# Altium schematic symbol library soed_new.SchLib: 151 symbols
Pins are listed as number, name and electrical type; pins without a type are passive.

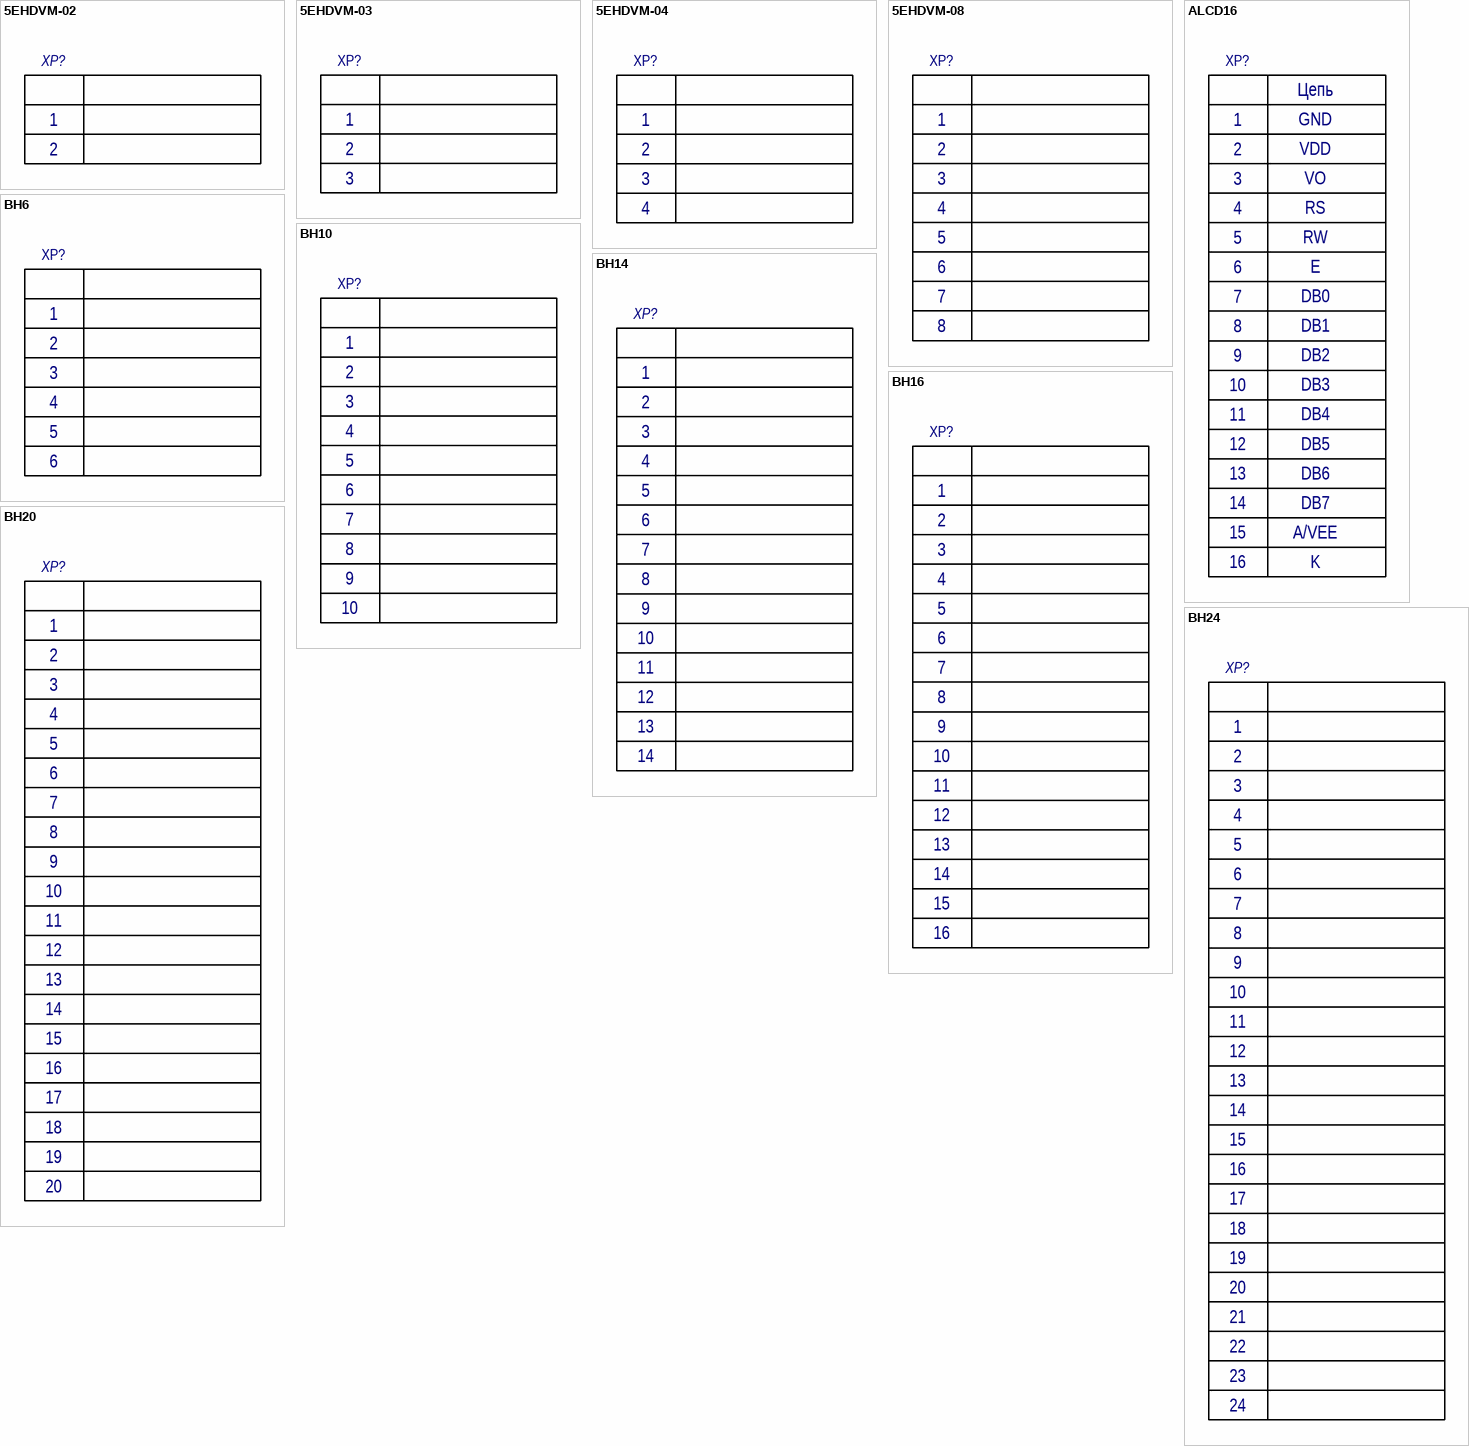
[diagram p0: symbols 5EHDVM-02 to BH24]

## 5EHDVM-02
designator XP?  (value not drawn)
Group: Соединители; Manufacture: Manufacture; Type: Type
footprint 5EHDVM-02
pins: 1, 2

## 5EHDVM-03
designator XP?  (value not drawn)
Group: Соединители; Manufacture: Manufacture; Type: Type
footprint 5EHDVM-03
pins: 1, 2, 3

## 5EHDVM-04
designator XP?  (value not drawn)
Group: Соединители; Manufacture: Manufacture; Type: Type
footprint 5EHDVM-04
pins: 1, 2, 3, 4

## 5EHDVM-08
designator XP?  (value not drawn)
Group: Соединители; Manufacture: Manufacture; Type: Type
footprint 5EHDVM-08
pins: 1, 2, 3, 4, 5, 6, 7, 8

## ALCD16
designator XP?  (value not drawn)
Group: Соединители; Manufacture: Manufacture; Type: Type
footprint BH16
pins: 1, 2, 3, 4, 5, 6, 7, 8, 9, 10, 11, 12, 13, 14, 15, 16
text: Цепь; GND; VDD; VO; RS; RW; E; DB0; DB1; DB2; DB3; DB4; DB5; DB6; DB7; A/VEE; K

## BH6
designator XP?  (value not drawn)
Group: Соединители; Manufacture: Manufacture; Type: Type
footprint BH6
pins: 1, 2, 3, 4, 5, 6

## BH10
designator XP?  (value not drawn)
Group: Соединители; Manufacture: Manufacture; Type: Type
footprint BH10
pins: 1, 2, 3, 4, 5, 6, 7, 8, 9, 10

## BH14
designator XP?  (value not drawn)
Group: Соединители; Manufacture: Manufacture; Type: Type
footprint BH14
pins: 1, 2, 3, 4, 5, 6, 7, 8, 9, 10, 11, 12, 13, 14

## BH16
designator XP?  (value not drawn)
Group: Соединители; Manufacture: Manufacture; Type: Type
footprint BH16
pins: 1, 2, 3, 4, 5, 6, 7, 8, 9, 10, 11, 12, 13, 14, 15, 16

## BH20
designator XP?  (value not drawn)
Group: Соединители; Manufacture: Manufacture; Type: Type
footprint BH20
pins: 1, 2, 3, 4, 5, 6, 7, 8, 9, 10, 11, 12, 13, 14, 15, 16, 17, 18, 19, 20

## BH24
designator XP?  (value not drawn)
Group: Соединители; Manufacture: Manufacture; Type: Type
pins: 1, 2, 3, 4, 5, 6, 7, 8, 9, 10, 11, 12, 13, 14, 15, 16, 17, 18, 19, 20, 21, 22, 23, 24

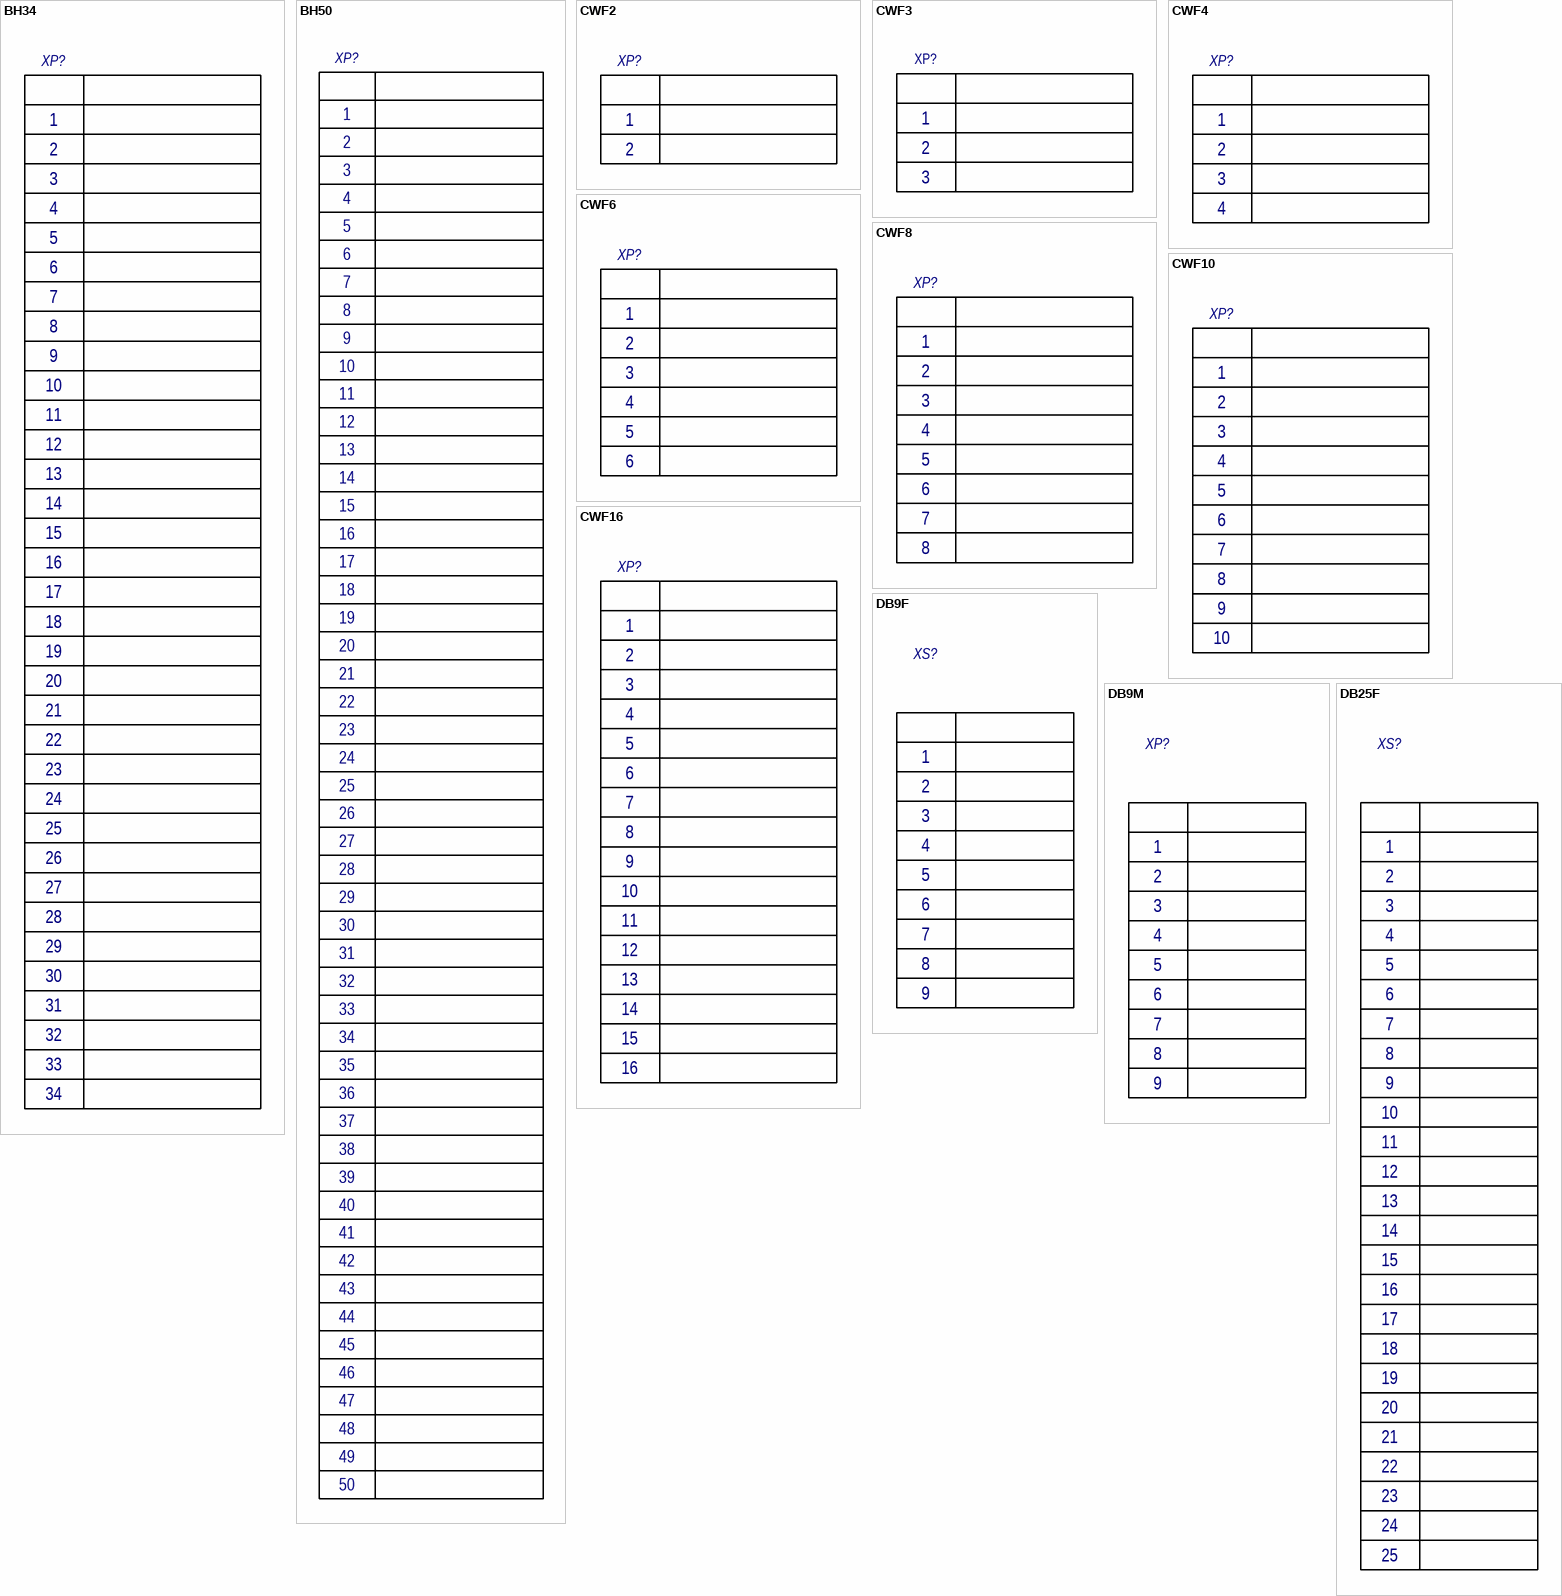
[diagram p1: symbols BH34 to DB25F]

## BH34
designator XP?  (value not drawn)
Group: Соединители; Manufacture: Manufacture; Type: Type
pins: 1, 2, 3, 4, 5, 6, 7, 8, 9, 10, 11, 12, 13, 14, 15, 16, 17, 18, 19, 20, 21, 22, 23, 24, 25, 26, 27, 28, 29, 30, 31, 32, 33, 34

## BH50
designator XP?  (value not drawn)
Group: Соединители; Manufacture: Manufacture; Type: Type
pins: 1 0, 2 0, 3 1, 4 2, 5 3, 6 4, 7 5, 8 6, 9 7, 10 8, 11 9, 12 10, 13 11, 14 12, 15 13, 16 14, 17 15, 18 16, 19 17, 20 18, 21 19, 22 20, 23 21, 24 22, 25 23, 26 24, 27 25, 28 26, 29 27, 30 28, 31 29, 32 30, 33 31, 34 0, 35 1, 36 2, 37 3, 38 4, 39 5, 40 6, 41 7, 42 8, 43 9, 44 10, 45 11, 46 12, 47 13, 48 14, 49 15, 50 16

## CWF2
designator XP?  (value not drawn)
Group: Соединители; Manufacture: Manufacture; Type: Type
footprint CWF2
pins: 1, 2

## CWF3
designator XP?  (value not drawn)
Group: Соединители; Manufacture: Manufacture; Type: Type
footprint CWF3
pins: 1, 2, 3

## CWF4
designator XP?  (value not drawn)
Group: Соединители; Manufacture: Manufacture; Type: Type
footprint CWF4
pins: 1, 2, 3, 4

## CWF6
designator XP?  (value not drawn)
Group: Соединители; Manufacture: Manufacture; Type: Type
footprint CWF6
pins: 1, 2, 3, 4, 5, 6

## CWF8
designator XP?  (value not drawn)
Group: Соединители; Manufacture: Manufacture; Type: Type
footprint CWF8
pins: 1, 2, 3, 4, 5, 6, 7, 8

## CWF10
designator XP?  (value not drawn)
Group: Соединители; Manufacture: Manufacture; Type: Type
footprint CWF10
pins: 1, 2, 3, 4, 5, 6, 7, 8, 9, 10

## CWF16
designator XP?  (value not drawn)
Group: Соединители; Manufacture: Manufacture; Type: Type
footprint CWF16
pins: 1, 2, 3, 4, 5, 6, 7, 8, 9, 10, 11, 12, 13, 14, 15, 16

## DB9F
designator XS?, comment Розетка DB9  (value not drawn)
Part Number: Розетка DB-9F; Group: Соединители; Manufacture: Manufacture
pins: 1, 1, 2, 2, 3, 3, 4, 4, 5, 5, 6, 6, 7, 7, 8, 8, 9, 9

## DB9M
designator XP?, comment Вилка DB9  (value not drawn)
Part Number: Вилка DB-9M; Group: Соединители; Manufacture: Manufacture
pins: 1, 1, 2, 2, 3, 3, 4, 4, 5, 5, 6, 6, 7, 7, 8, 8, 9, 9

## DB25F
designator XS?, comment Розетка DB25  (value not drawn)
Part Number: Розетка DB-25F; Group: Соединители; Manufacture: Manufacture
pins: 1, 1, 2, 2, 3, 3, 4, 4, 5, 5, 6, 6, 7, 7, 8, 8, 9, 9, 10, 10, 11, 11, 12, 12, 13, 13, 14, 14, 15, 15, 16, 16, 17, 17, 18, 18, 19, 19, 20, 20, 21, 21, 22, 22, 23, 23, 24, 24, 24, 24
text: 25

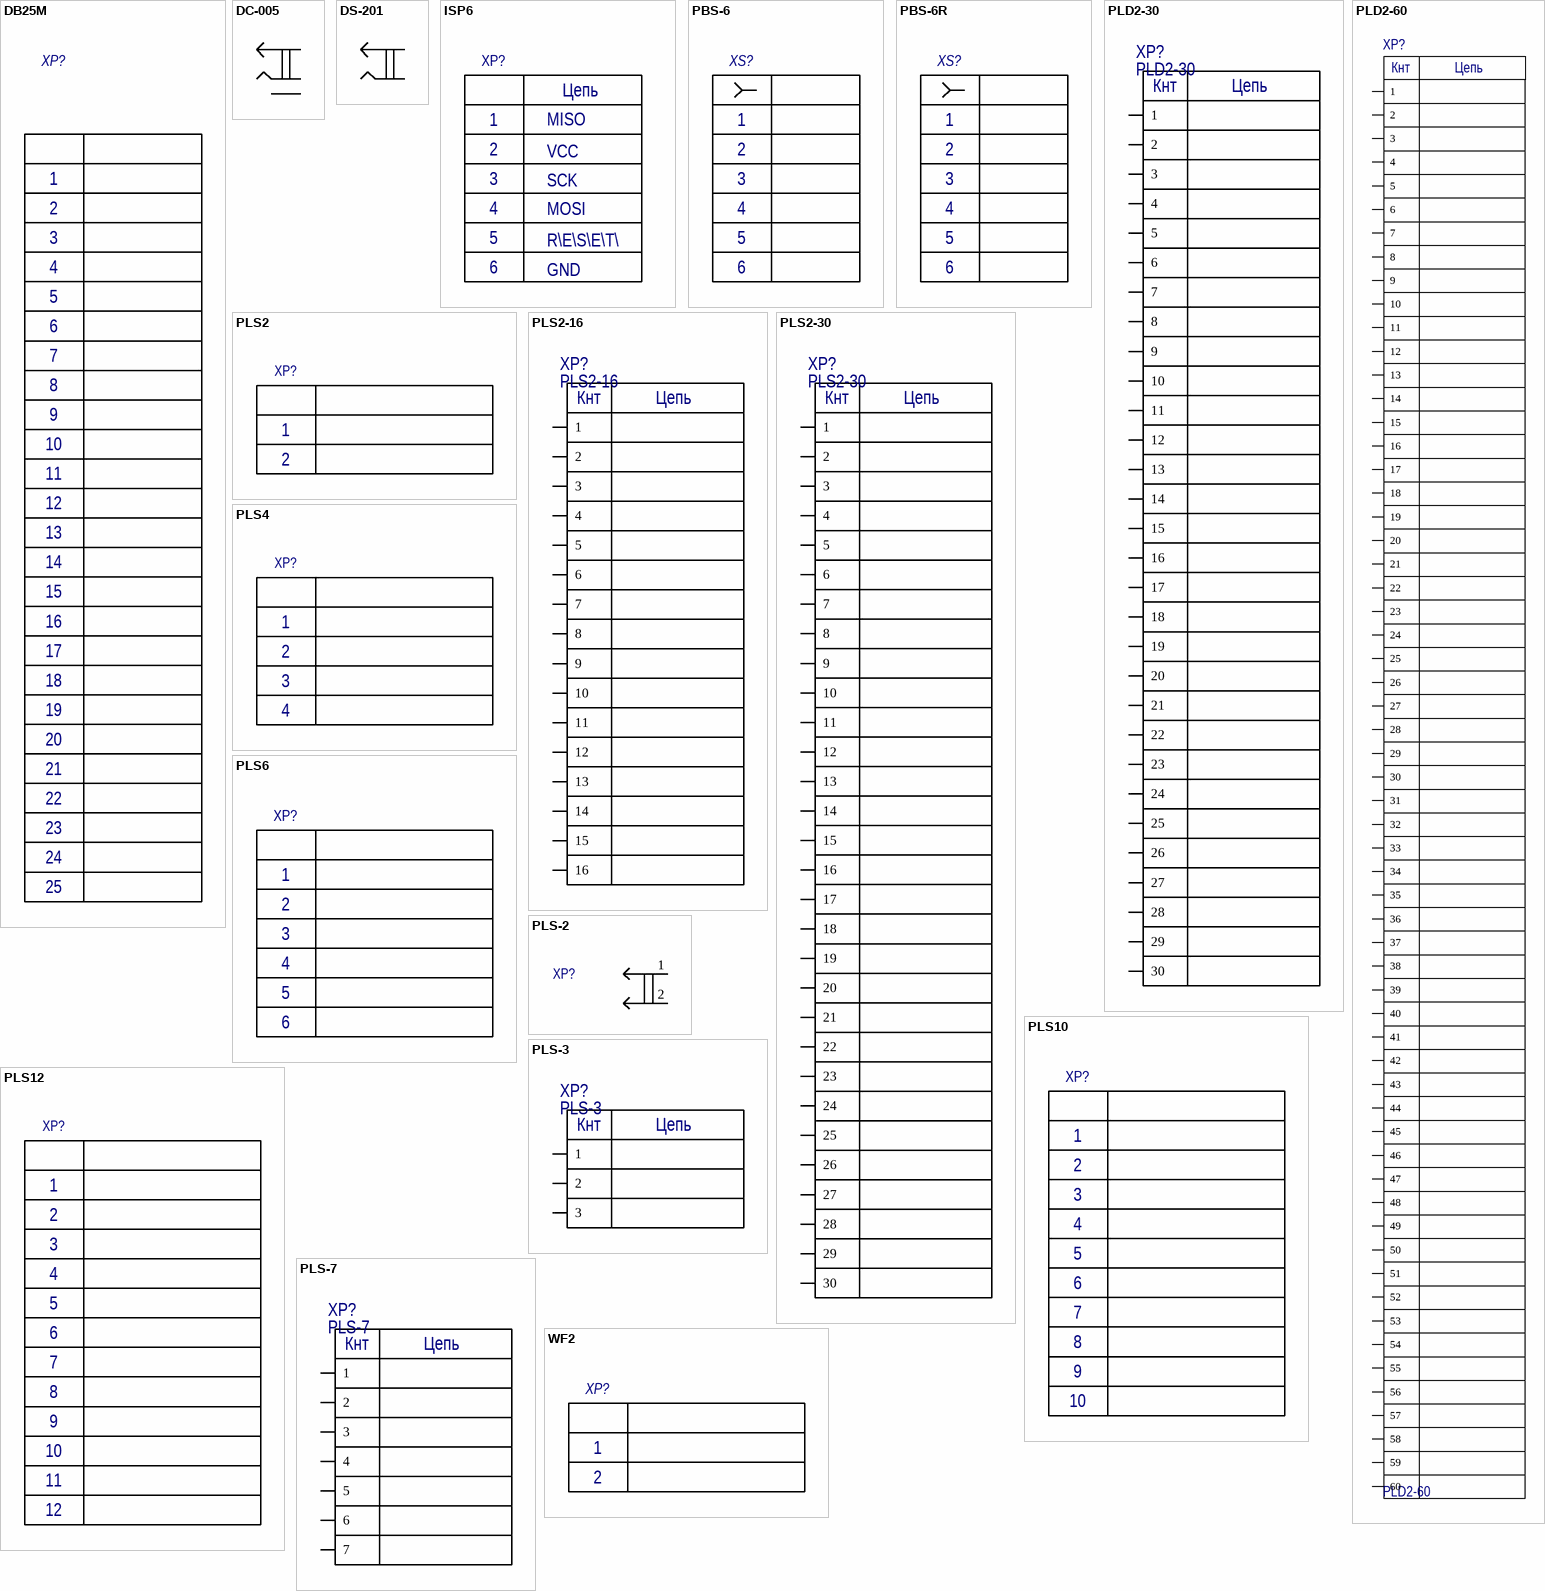
[diagram p2: symbols DB25M to WF2]

## DB25M
designator XP?, comment Вилка DB25  (value not drawn)
Part Number: Вилка DB-25M; Group: Соединители; Manufacture: Manufacture
pins: 1, 1, 2, 2, 3, 3, 4, 4, 5, 5, 6, 6, 7, 7, 8, 8, 9, 9, 10, 10, 11, 11, 12, 12, 13, 13, 14, 14, 15, 15, 16, 16, 17, 17, 18, 18, 19, 19, 20, 20, 21, 21, 22, 22, 23, 23, 24, 24, 24, 24
text: 25

## DC-005
designator XP?  (value not drawn)
Разъем питания DC 2.1x5.5 мм гнездо, прямой угол на плату; Part Number: Вилка DS-201; Group: Соединители; Manufacture: Manufacture; Type: DS-201
footprint DC-005 (Раазъем питания на плату)
pins: 1, 2, 3

## DS-201
designator XP?  (value not drawn)
Разъем питания DC 2.1x5.5 мм гнездо, прямой угол на плату; Part Number: Вилка DS-201; Group: Соединители; Manufacture: Manufacture; Type: DS-201
pins: 1, 2

## ISP6
designator XP?  (value not drawn)
Group: Соединители; Manufacture: Manufacture; Type: Type
footprint ISP6
pins: 1, 2, 3, 4, 5, 6
text: Цепь; MISO; VCC; SCK; MOSI; R\E\S\E\T\; GND

## PBS-6
designator XS?, comment PBS-6R  (value not drawn)
Розетка 2,54мм прямая однорядная на плату; Part Number: Розетка PBS-6; Group: Соединители; Manufacture: Manufacture; Type: PBS-6
footprint PBS-6
pins: 1, 2, 3, 4, 5, 6

## PBS-6R
designator XS?  (value not drawn)
Розетка 2,54мм угловая однорядная на плату; Part Number: Розетка PBS-6R; Group: Соединители; Manufacture: Manufacture; Type: PBS-6R
pins: 1, 2, 3, 4, 5, 6

## PLD2-30
designator XP?
Вилка прямая двухрядная 2,0мм PLD2-30; TypeComp: Вилка; NameComp: PLD2-30; Part Number: Вилка прямая двухрядная 2,0мм PLD2-30
pins: 1, 2, 3, 4, 5, 6, 7, 8, 9, 10, 11, 12, 13, 14, 15, 16, 17, 18, 19, 20, 21, 22, 23, 24, 25, 26, 27, 28, 29, 30
text: Кнт; Цепь

## PLD2-60
designator XP?
Вилка прямая двухрядная 2мм; Part Number: Вилка прямая двухрядная 2,0мм PLD2-60; TypeComp: Вилка; NameComp: PLD2-60
pins: 1, 2, 3, 4, 5, 6, 7, 8, 9, 10, 11, 12, 13, 14, 15, 16, 17, 18, 19, 20, 21, 22, 23, 24, 25, 26, 27, 28, 29, 30, 31, 32, 33, 34, 35, 36, 37, 38, 39, 40, 41, 42, 43, 44, 45, 46, 47, 48, 49, 50, 51, 52, 53, 54, 55, 56, 57, 58, 59, 60
text: Кнт; Цепь

## PLS2
designator XP?  (value not drawn)
Group: Соединители; Manufacture: Manufacture; Type: Type
footprint PLS2
pins: 1, 2

## PLS2-16
designator XP?
Вилка прямая однорядная 2,0мм; Part Number: Вилка прямая однорядная 2,0мм PLS2-16; TypeComp: Вилка; NameComp: PLS2-16
pins: 1, 2, 3, 4, 5, 6, 7, 8, 9, 10, 11, 12, 13, 14, 15, 16
text: Кнт; Цепь

## PLS2-30
designator XP?
Вилка прямая однорядная 2мм; Part Number: Вилка прямая однорядная 2,0мм PLS2-30; TypeComp: Вилка; NameComp: PLS2-30
pins: 1, 2, 3, 4, 5, 6, 7, 8, 9, 10, 11, 12, 13, 14, 15, 16, 17, 18, 19, 20, 21, 22, 23, 24, 25, 26, 27, 28, 29, 30
text: Кнт; Цепь

## PLS4
designator XP?  (value not drawn)
Group: Соединители; Manufacture: Manufacture; Type: Type
footprint PLS4
pins: 1, 2, 3, 4

## PLS6
designator XP?  (value not drawn)
Group: Соединители; Manufacture: Manufacture; Type: Type
footprint PLS6
pins: 1, 2, 3, 4, 5, 6

## PLS10
designator XP?  (value not drawn)
Group: Соединители; Manufacture: Manufacture; Type: Type
pins: 1, 2, 3, 4, 5, 6, 7, 8, 9, 10

## PLS12
designator XP?  (value not drawn)
Group: Соединители; Manufacture: Manufacture; Type: Type
footprint PLS12
pins: 1, 2, 3, 4, 5, 6, 7, 8, 9, 10, 11, 12

## PLS-2
designator XP?, comment PLS2  (value not drawn)
Вилка прямая однорядная 2,54мм 2к; Part Number: Вилка прямая однорядная 2,54мм PLS-2; Group: Соединители; Manufacture: Manufacture; Type: PLS-2
footprint PLS2
pins: 1, 2

## PLS-3
designator XP?
Вилка прямая однорядная 2,54мм; Part Number: Вилка прямая однорядная 2,54мм PLS-3; TypeComp: Вилка; NameComp: PLS-3
pins: 1, 2, 3
text: Кнт; Цепь

## PLS-7
designator XP?
Вилка прямая однорядная 2,54мм; Part Number: Вилка прямая однорядная 2,54мм PLS-7; TypeComp: Вилка; NameComp: PLS-7
pins: 1, 2, 3, 4, 5, 6, 7
text: Кнт; Цепь

## WF2
designator XP?  (value not drawn)
Group: Соединители; Manufacture: Manufacture; Type: Type
pins: 1, 2

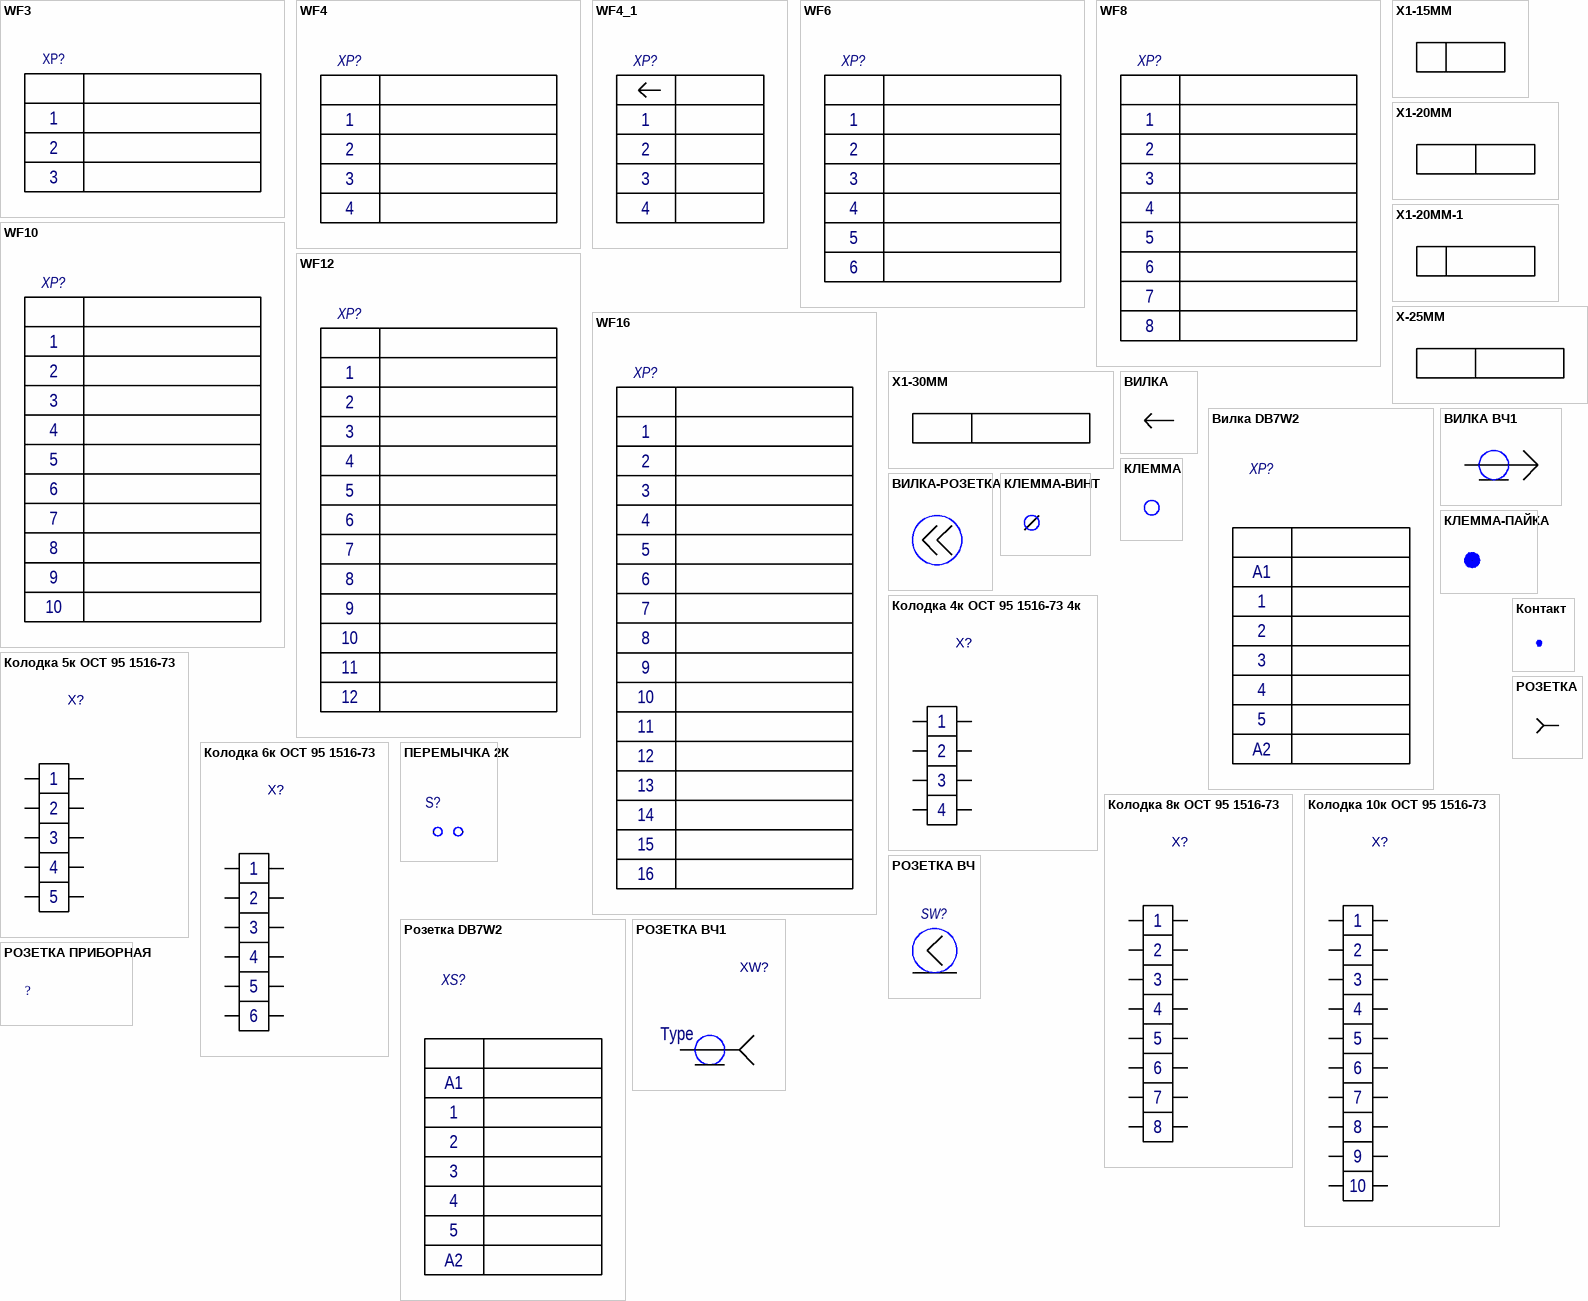
[diagram p3: symbols WF3 to РОЗЕТКА ПРИБОРНАЯ]

## WF3
designator XP?  (value not drawn)
Group: Соединители; Manufacture: Manufacture; Type: Type
footprint WF3
pins: 1, 2, 3

## WF4
designator XP?  (value not drawn)
Group: Соединители; Manufacture: Manufacture; Type: Type
footprint WF4
pins: 1, 2, 3, 4

## WF4_1
designator XP?, comment WF4  (value not drawn)
Вилка 2,54мм прямая на плату; Part Number: Вилка WF-4; Group: Соединители; Manufacture: Manufacture; Type: WF-4
footprint WF4
footprint WF-4
pins: 1, 2, 3, 4

## WF6
designator XP?  (value not drawn)
Group: Соединители; Manufacture: Manufacture; Type: Type
footprint WF6
pins: 1, 2, 3, 4, 5, 6

## WF8
designator XP?  (value not drawn)
Group: Соединители; Manufacture: Manufacture; Type: Type
footprint WF8
pins: 1, 2, 3, 4, 5, 6, 7, 8

## WF10
designator XP?  (value not drawn)
Group: Соединители; Manufacture: Manufacture; Type: Type
footprint WF10
pins: 1, 2, 3, 4, 5, 6, 7, 8, 9, 10

## WF12
designator XP?  (value not drawn)
Group: Соединители; Manufacture: Manufacture; Type: Type
footprint WF12
pins: 1, 2, 3, 4, 5, 6, 7, 8, 9, 10, 11, 12

## WF16
designator XP?  (value not drawn)
Group: Соединители; Manufacture: Manufacture; Type: Type
footprint WF16
pins: 1, 2, 3, 4, 5, 6, 7, 8, 9, 10, 11, 12, 13, 14, 15, 16

## X1-15MM
designator U?  (value not drawn)
Group: Соединители; Manufacture: Manufacture; Type: Type
pins: 11 0

## X1-20MM
designator U?  (value not drawn)
Group: Соединители; Manufacture: Manufacture; Type: Type
pins: 11 0

## X1-20MM-1
designator U?  (value not drawn)
Group: Соединители; Manufacture: Manufacture; Type: Type
pins: 11 0

## X1-30MM
designator U?  (value not drawn)
Group: Соединители; Manufacture: Manufacture; Type: Type
pins: 1, 2

## X-25MM
designator ?, comment Контакт соединителя  (value not drawn)
Group: Соединители
pins: 1, 2

## ВИЛКА
designator U?  (value not drawn)
Group: Соединители; Manufacture: Manufacture; Type: Type

## Вилка DB7W2
designator XP?  (value not drawn)
Part Number: Вилка DB-7W2; Group: Соединители; Manufacture: Manufacture
pins: 1, 1, 2, 2, 3, 3, 4, 4, 5, 5, 6, 6, 7, 7
text: A1; A2

## ВИЛКА ВЧ1
designator U?  (value not drawn)
Group: Соединители; Manufacture: Manufacture; Type: Type
pins: 1, 2

## ВИЛКА-РОЗЕТКА
designator U?, comment Соединитель ВЧ  (value not drawn)
Group: Соединители; Manufacture: Manufacture; Type: Type
pins: 1, 2

## КЛЕММА
designator U?  (value not drawn)
Group: Соединители; Manufacture: Manufacture; Type: Type
pins: 1

## КЛЕММА-ВИНТ
designator U?  (value not drawn)
Group: Соединители; Manufacture: Manufacture; Type: Type
pins: 1

## КЛЕММА-ПАЙКА
designator U?  (value not drawn)
Group: Соединители; Manufacture: Manufacture; Type: Type
footprint PAD12_25
pins: 1

## Колодка 4к ОСТ 95 1516-73 4к
designator X?, comment Колодка 030 ОСТ 95 1516-73  (value not drawn)
Part Number: Колодка 030 ОСТ 95 1516-73
pins: 1, 1, 1, 1, 1, 1, 1, 1
text: 2; 3; 4

## Колодка 5к ОСТ 95 1516-73
designator X?, comment Колодка 040 ОСТ 95 1516-73  (value not drawn)
Part Number: Колодка 040 ОСТ 95 1516-73
pins: 1, 1, 1, 1, 1, 1, 1, 1, 1, 1
text: 2; 3; 4; 5

## Колодка 6к ОСТ 95 1516-73
designator X?, comment Колодка 050 ОСТ 95 1516-73  (value not drawn)
Part Number: Колодка 050 ОСТ 95 1516-73
pins: 1, 1, 1, 1, 1, 1, 1, 1, 1, 1, 1, 1
text: 2; 3; 4; 5; 6

## Колодка 8к ОСТ 95 1516-73
designator X?, comment Колодка 070 ОСТ 95 1516-73  (value not drawn)
Part Number: Колодка 070 ОСТ 95 1516-73
pins: 1, 1, 1, 1, 1, 1, 1, 1, 1, 1, 1, 1, 1, 1, 1, 1
text: 2; 3; 4; 5; 6; 7; 8

## Колодка 10к ОСТ 95 1516-73
designator X?, comment Колодка 090 ОСТ 95 1516-73  (value not drawn)
Part Number: Колодка 090 ОСТ 95 1516-73
pins: 1, 1, 1, 1, 1, 1, 1, 1, 1, 1, 1, 1, 1, 1, 1, 1, 1, 1, 1, 1
text: 2; 3; 4; 5; 6; 7; 8; 9; 10

## Контакт
designator ?  (value not drawn)
Group: Соединители; Manufacture: Manufacture; Type: Type
pins: 1

## ПЕРЕМЫЧКА 2К
designator S?  (value not drawn)
Group: Соединители; Manufacture: Manufacture; Type: Type
footprint ДЖАМПЕР_ПЕРЕМЫЧКА 2К(Primary)
pins: 0, 1

## РОЗЕТКА
designator U?  (value not drawn)
Group: Соединители; Manufacture: Manufacture; Type: Type

## Розетка DB7W2
designator XS?  (value not drawn)
Part Number: Розетка DB-7W2; Group: Соединители; Manufacture: Manufacture
pins: 1, 1, 2, 2, 3, 3, 4, 4, 5, 5, 6, 6, 7, 7
text: A1; A2

## РОЗЕТКА ВЧ
designator SW?  (value not drawn)
Group: Соединители; Manufacture: Manufacture; Type: Type
pins: 1, 2

## РОЗЕТКА ВЧ1
designator XW?  (value not drawn)
Group: Соединители; Manufacture: Manufacture; Type: Type
pins: 1, 2

## РОЗЕТКА ПРИБОРНАЯ
designator ?  (value not drawn)
Group: Соединители; Manufacture: Manufacture; Type: Type
footprint РОЗЕТКА ПРИБОРНАЯ

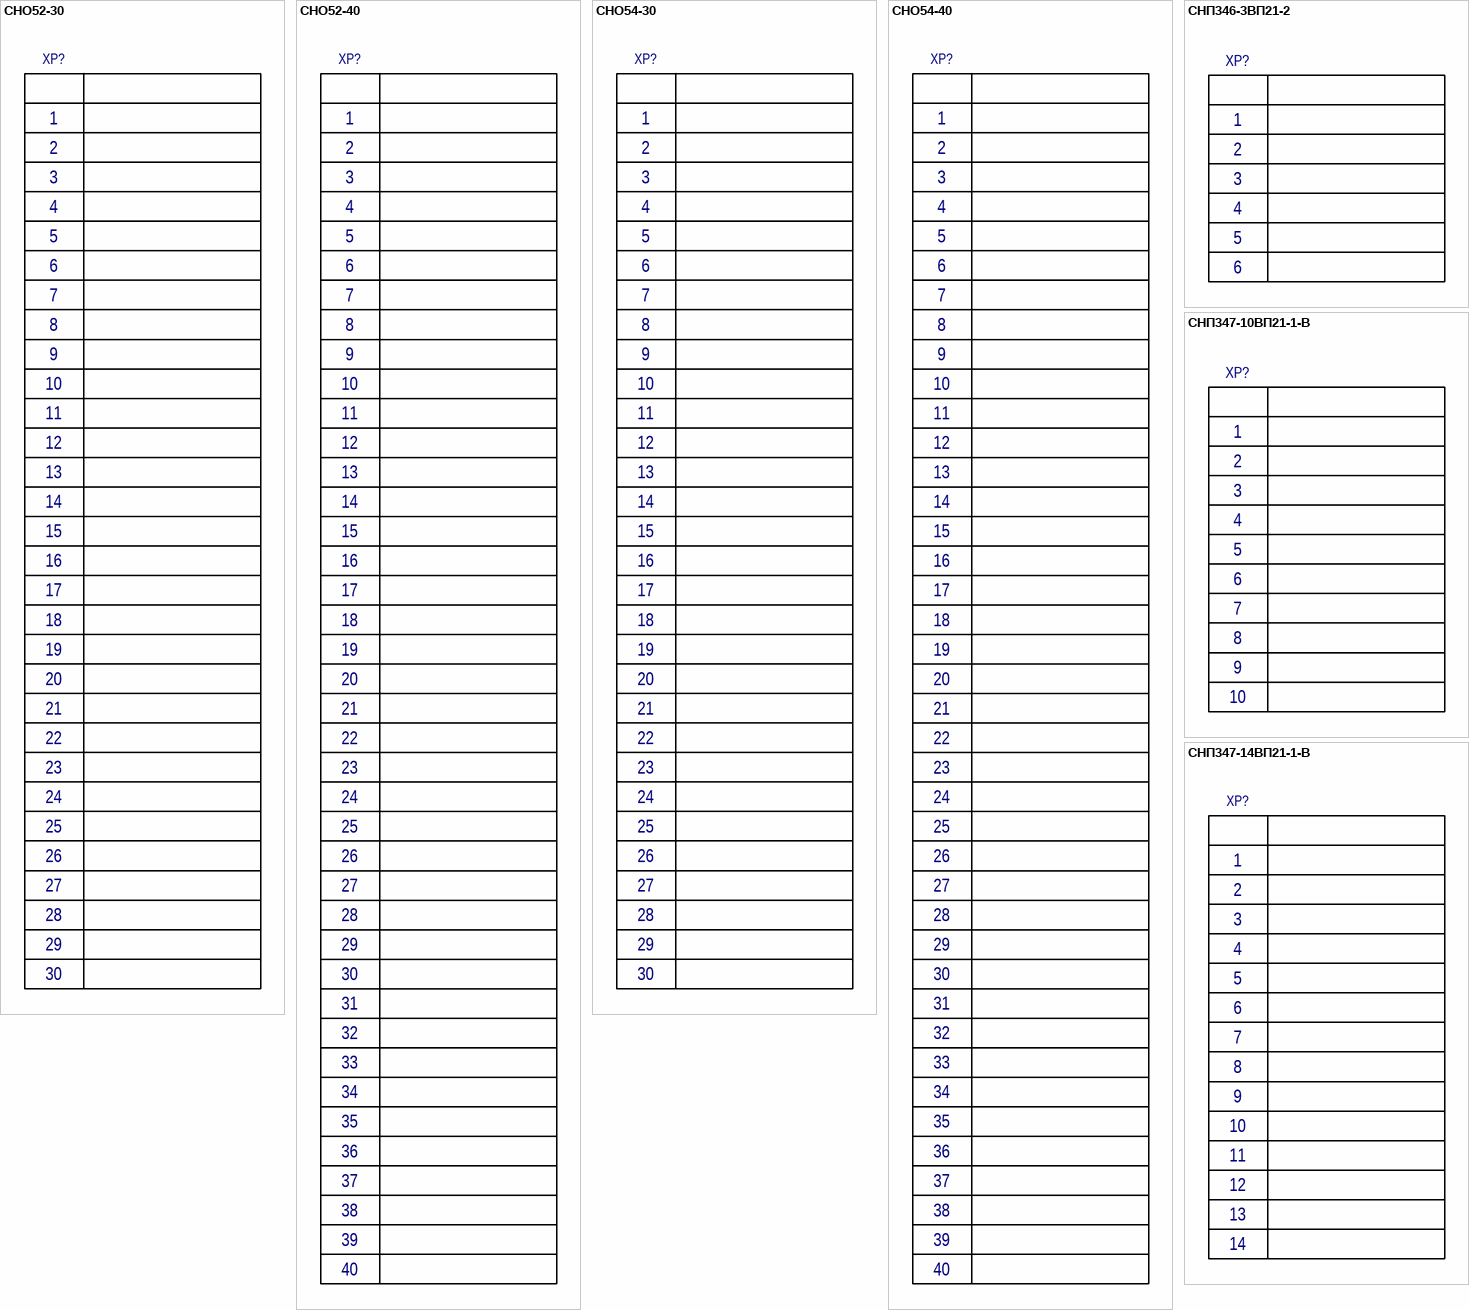
[diagram p4: symbols СНО52-30 to СНП347-14ВП21-1-В]

## СНО52-30
designator XP?  (value not drawn)
Group: Соединители; Manufacture: Manufacture; Type: Type
pins: 1, 2, 3, 4, 5, 6, 7, 8, 9, 10, 11, 12, 13, 14, 15, 16, 17, 18, 19, 20, 21, 22, 23, 24, 25, 26, 27, 28, 29, 30

## СНО52-40
designator XP?  (value not drawn)
Group: Соединители; Manufacture: Manufacture; Type: Type
pins: 1, 2, 3, 4, 5, 6, 7, 8, 9, 10, 11, 12, 13, 14, 15, 16, 17, 18, 19, 20, 21, 22, 23, 24, 25, 26, 27, 28, 29, 30, 31, 32, 33, 34, 35, 36, 37, 38, 39, 40

## СНО54-30
designator XP?  (value not drawn)
Group: Соединители; Manufacture: Manufacture; Type: Type
pins: 1, 2, 3, 4, 5, 6, 7, 8, 9, 10, 11, 12, 13, 14, 15, 16, 17, 18, 19, 20, 21, 22, 23, 24, 25, 26, 27, 28, 29, 30

## СНО54-40
designator XP?  (value not drawn)
Group: Соединители; Manufacture: Manufacture; Type: Type
pins: 1, 2, 3, 4, 5, 6, 7, 8, 9, 10, 11, 12, 13, 14, 15, 16, 17, 18, 19, 20, 21, 22, 23, 24, 25, 26, 27, 28, 29, 30, 31, 32, 33, 34, 35, 36, 37, 38, 39, 40

## СНП346-3ВП21-2
designator XP?  (value not drawn)
Group: Соединители; Manufacture: Manufacture; Type: Type
pins: 1, 2, 3, 4, 5, 6

## СНП347-10ВП21-1-В
designator XP?  (value not drawn)
Group: Соединители; Manufacture: Manufacture; Type: Type
pins: 1, 2, 3, 4, 5, 6, 7, 8, 9, 10

## СНП347-14ВП21-1-В
designator XP?  (value not drawn)
Group: Соединители; Manufacture: Manufacture; Type: Type
pins: 1, 2, 3, 4, 5, 6, 7, 8, 9, 10, 11, 12, 13, 14

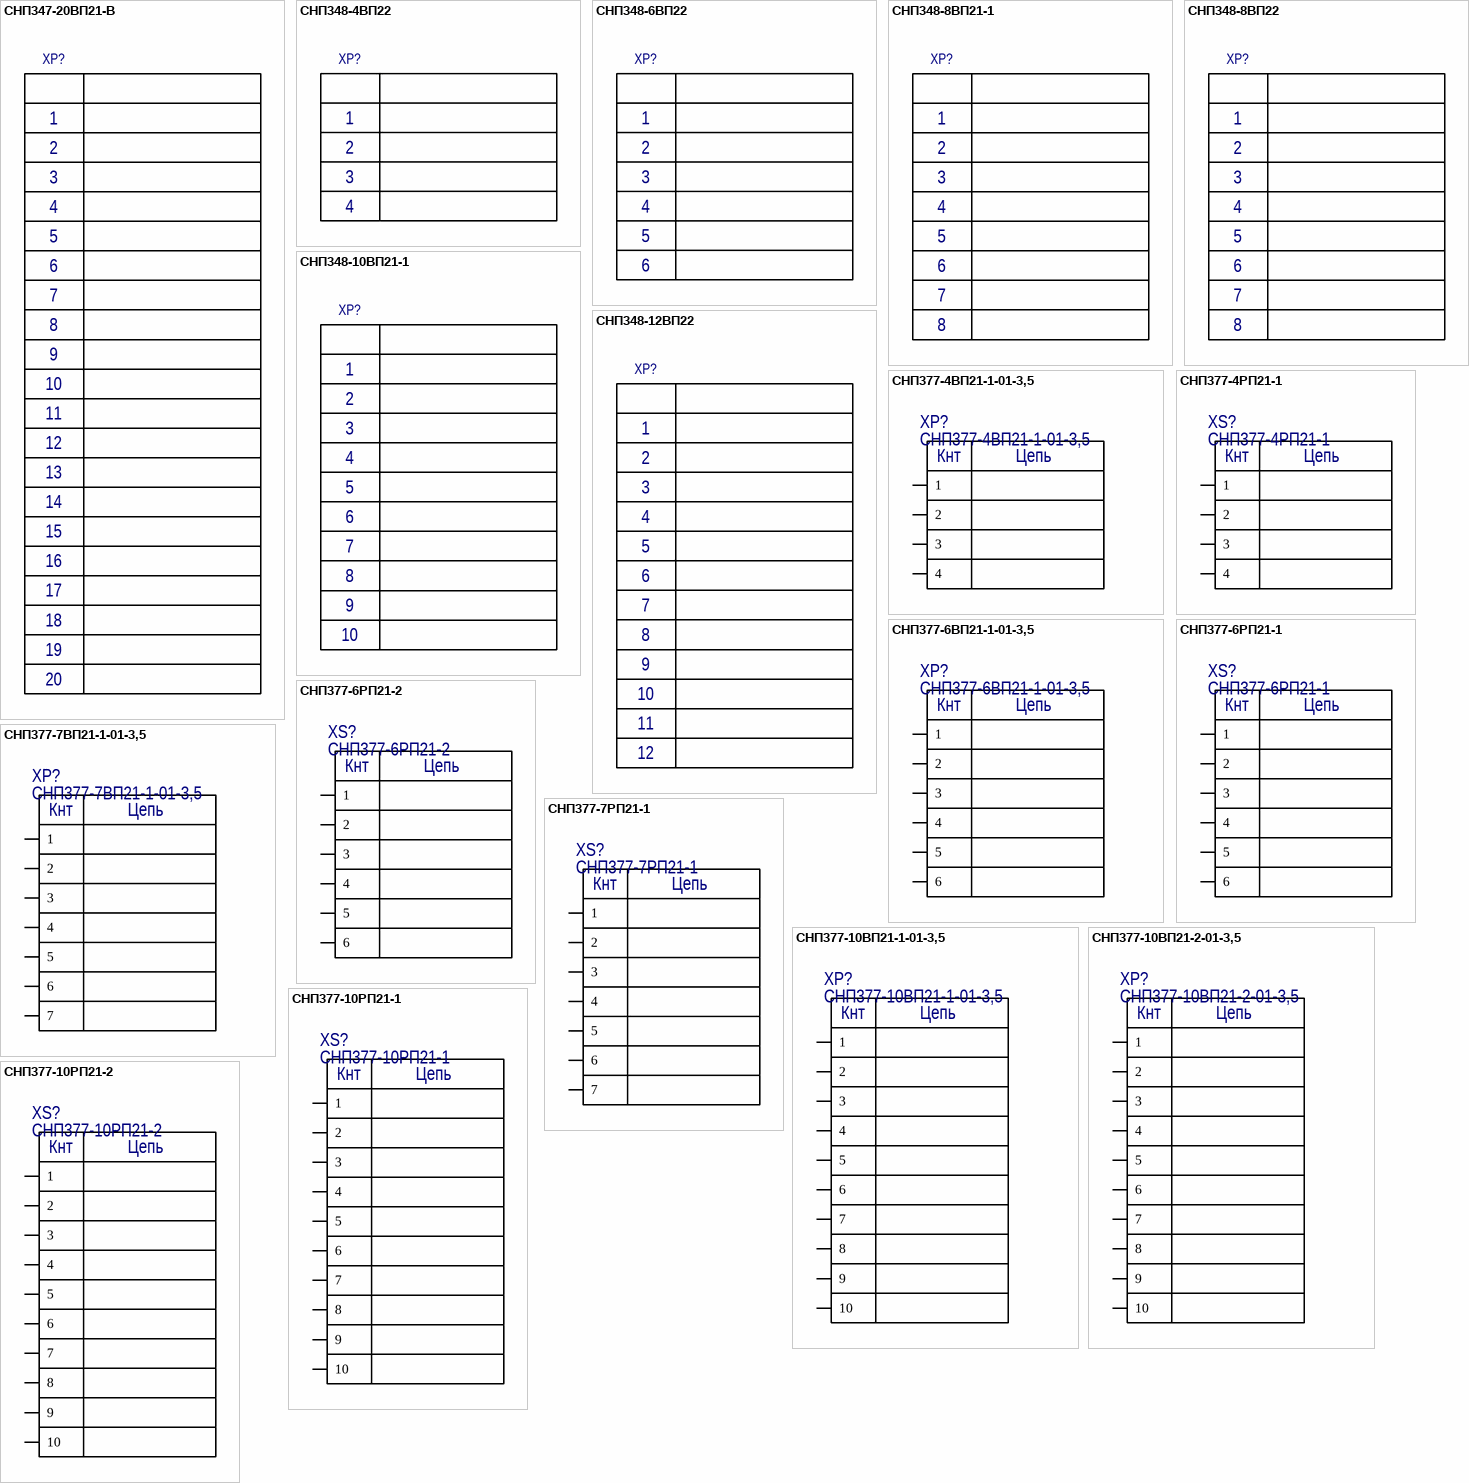
[diagram p5: symbols СНП347-20ВП21-В to СНП377-10РП21-2]

## СНП347-20ВП21-В
designator XP?  (value not drawn)
Group: Соединители; Manufacture: Manufacture; Type: Type
footprint СНП347-20ВП21-В
pins: 1, 2, 3, 4, 5, 6, 7, 8, 9, 10, 11, 12, 13, 14, 15, 16, 17, 18, 19, 20

## СНП348-4ВП22
designator XP?  (value not drawn)
Group: Соединители; Manufacture: Manufacture; Type: Type
footprint СНП348-4ВП22
pins: 1, 2, 3, 4

## СНП348-6ВП22
designator XP?  (value not drawn)
Group: Соединители; Manufacture: Manufacture; Type: Type
pins: 1, 2, 3, 4, 5, 6

## СНП348-8ВП21-1
designator XP?  (value not drawn)
Group: Соединители; Manufacture: Manufacture; Type: Type
footprint СНП348-8ВП21-1
pins: 1, 2, 3, 4, 5, 6, 7, 8

## СНП348-8ВП22
designator XP?  (value not drawn)
Group: Соединители; Manufacture: Manufacture; Type: Type
pins: 1, 2, 3, 4, 5, 6, 7, 8

## СНП348-10ВП21-1
designator XP?  (value not drawn)
Group: Соединители; Manufacture: Manufacture; Type: Type
footprint СНП348-10ВП21-1
pins: 1, 2, 3, 4, 5, 6, 7, 8, 9, 10

## СНП348-12ВП22
designator XP?  (value not drawn)
Group: Соединители; Manufacture: Manufacture; Type: Type
pins: 1, 2, 3, 4, 5, 6, 7, 8, 9, 10, 11, 12

## СНП377-4ВП21-1-01-3,5
designator XP?
Part Number: СНП377-4ВП21-1-01-3,5 РЮМК.430420.017ТУ; TypeComp: Вилка; NameComp: СНП377-4ВП21-1-01-3,5
pins: 1, 2, 3, 4
text: Кнт; Цепь

## СНП377-4РП21-1
designator XS?
Part Number: СНП377-4РП21-1 РЮМК.430420.017ТУ; TypeComp: Розетка; NameComp: СНП377-4РП21-1
pins: 1, 2, 3, 4
text: Кнт; Цепь

## СНП377-6ВП21-1-01-3,5
designator XP?
Part Number: СНП377-6ВП21-1-01-3,5 РЮМК.430420.017ТУ; TypeComp: Вилка; NameComp: СНП377-6ВП21-1-01-3,5
pins: 1, 2, 3, 4, 5, 6
text: Кнт; Цепь

## СНП377-6РП21-1
designator XS?
Part Number: СНП377-6РП21-1 РЮМК.430420.017ТУ; TypeComp: Розетка; NameComp: СНП377-6РП21-1
pins: 1, 2, 3, 4, 5, 6
text: Кнт; Цепь

## СНП377-6РП21-2
designator XS?
Part Number: СНП377-6РП21-2 РЮМК.430420.017ТУ; TypeComp: Розетка; NameComp: СНП377-6РП21-2
pins: 1, 2, 3, 4, 5, 6
text: Кнт; Цепь

## СНП377-7ВП21-1-01-3,5
designator XP?
Part Number: СНП377-7ВП21-1-01-3,5 РЮМК.430420.017ТУ; TypeComp: Вилка; NameComp: СНП377-7ВП21-1-01-3,5
pins: 1, 2, 3, 4, 5, 6, 7
text: Кнт; Цепь

## СНП377-7РП21-1
designator XS?
Part Number: СНП377-7РП21-1 РЮМК.430420.017ТУ; TypeComp: Розетка; NameComp: СНП377-7РП21-1
pins: 1, 2, 3, 4, 5, 6, 7
text: Кнт; Цепь

## СНП377-10ВП21-1-01-3,5
designator XP?
Part Number: СНП377-10ВП21-1-01-3,5 РЮМК.430420.017ТУ; TypeComp: Вилка; NameComp: СНП377-10ВП21-1-01-3,5
pins: 1, 2, 3, 4, 5, 6, 7, 8, 9, 10
text: Кнт; Цепь

## СНП377-10ВП21-2-01-3,5
designator XP?
Part Number: СНП377-10ВП21-2-01-3,5 РЮМК.430420.017ТУ; TypeComp: Вилка; NameComp: СНП377-10ВП21-2-01-3,5
pins: 1, 2, 3, 4, 5, 6, 7, 8, 9, 10
text: Кнт; Цепь

## СНП377-10РП21-1
designator XS?
Part Number: СНП377-10РП21-1 РЮМК.430420.017ТУ; TypeComp: Розетка; NameComp: СНП377-10РП21-1
pins: 1, 2, 3, 4, 5, 6, 7, 8, 9, 10
text: Кнт; Цепь

## СНП377-10РП21-2
designator XS?
Part Number: СНП377-10РП21-2 РЮМК.430420.017ТУ; TypeComp: Розетка; NameComp: СНП377-10РП21-2
pins: 1, 2, 3, 4, 5, 6, 7, 8, 9, 10
text: Кнт; Цепь

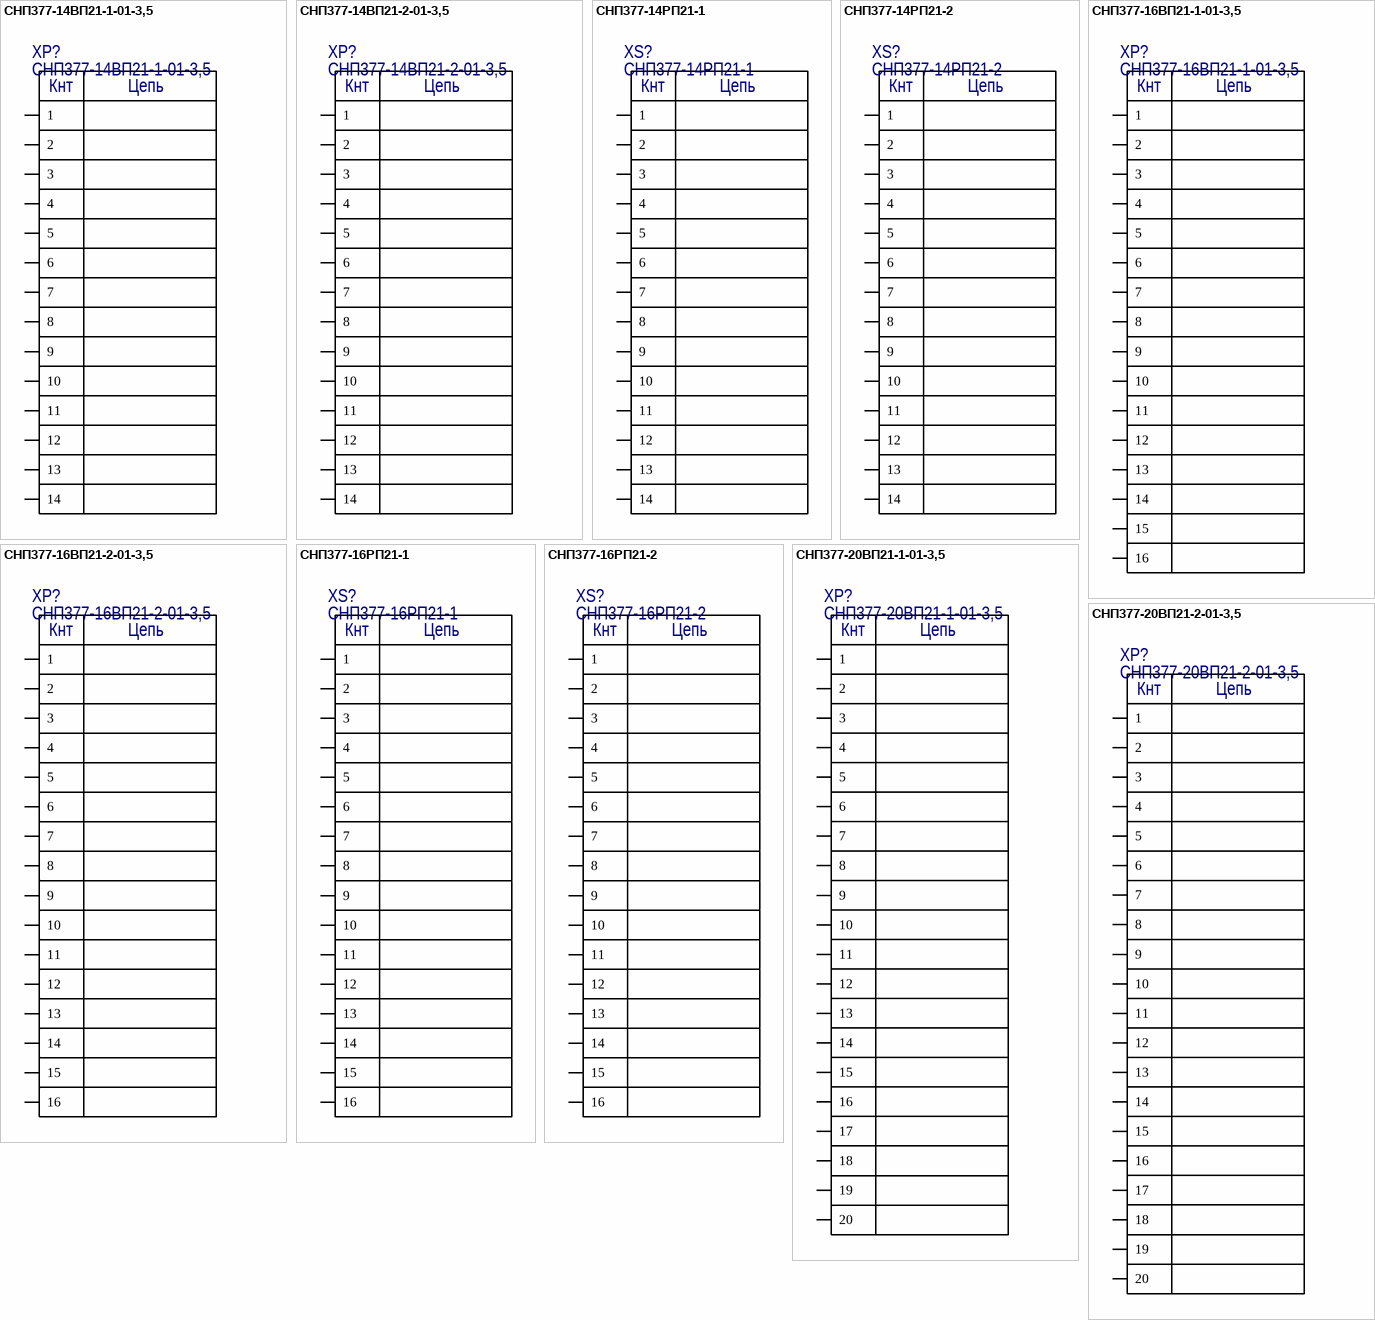
[diagram p6: symbols СНП377-14ВП21-1-01-3,5 to СНП377-20ВП21-2-01-3,5]

## СНП377-14ВП21-1-01-3,5
designator XP?
Part Number: СНП377-14ВП21-1-01-3,5 РЮМК.430420.017ТУ; TypeComp: Вилка; NameComp: СНП377-14ВП21-1-01-3,5
pins: 1, 2, 3, 4, 5, 6, 7, 8, 9, 10, 11, 12, 13, 14
text: Кнт; Цепь

## СНП377-14ВП21-2-01-3,5
designator XP?
Part Number: СНП377-14ВП21-2-01-3,5 РЮМК.430420.017ТУ; TypeComp: Вилка; NameComp: СНП377-14ВП21-2-01-3,5
pins: 1, 2, 3, 4, 5, 6, 7, 8, 9, 10, 11, 12, 13, 14
text: Кнт; Цепь

## СНП377-14РП21-1
designator XS?
Part Number: СНП377-14РП21-1 РЮМК.430420.017ТУ; TypeComp: Розетка; NameComp: СНП377-14РП21-1
pins: 1, 2, 3, 4, 5, 6, 7, 8, 9, 10, 11, 12, 13, 14
text: Кнт; Цепь

## СНП377-14РП21-2
designator XS?
Part Number: СНП377-14РП21-2 РЮМК.430420.017ТУ; TypeComp: Розетка; NameComp: СНП377-14РП21-2
pins: 1, 2, 3, 4, 5, 6, 7, 8, 9, 10, 11, 12, 13, 14
text: Кнт; Цепь

## СНП377-16ВП21-1-01-3,5
designator XP?
Part Number: СНП377-16ВП21-1-01-3,5 РЮМК.430420.017ТУ; TypeComp: Вилка; NameComp: СНП377-16ВП21-1-01-3,5
pins: 1, 2, 3, 4, 5, 6, 7, 8, 9, 10, 11, 12, 13, 14, 15, 16
text: Кнт; Цепь

## СНП377-16ВП21-2-01-3,5
designator XP?
Part Number: СНП377-16ВП21-2-01-3,5 РЮМК.430420.017ТУ; TypeComp: Вилка; NameComp: СНП377-16ВП21-2-01-3,5
pins: 1, 2, 3, 4, 5, 6, 7, 8, 9, 10, 11, 12, 13, 14, 15, 16
text: Кнт; Цепь

## СНП377-16РП21-1
designator XS?
Part Number: СНП377-16РП21-1 РЮМК.430420.017ТУ; TypeComp: Розетка; NameComp: СНП377-16РП21-1
pins: 1, 2, 3, 4, 5, 6, 7, 8, 9, 10, 11, 12, 13, 14, 15, 16
text: Кнт; Цепь

## СНП377-16РП21-2
designator XS?
Part Number: СНП377-16РП21-2 РЮМК.430420.017ТУ; TypeComp: Розетка; NameComp: СНП377-16РП21-2
pins: 1, 2, 3, 4, 5, 6, 7, 8, 9, 10, 11, 12, 13, 14, 15, 16
text: Кнт; Цепь

## СНП377-20ВП21-1-01-3,5
designator XP?
Part Number: СНП377-20ВП21-1-01-3,5 РЮМК.430420.017ТУ; TypeComp: Вилка; NameComp: СНП377-20ВП21-1-01-3,5
pins: 1, 2, 3, 4, 5, 6, 7, 8, 9, 10, 11, 12, 13, 14, 15, 16, 17, 18, 19, 20
text: Кнт; Цепь

## СНП377-20ВП21-2-01-3,5
designator XP?
Part Number: СНП377-20ВП21-2-01-3,5 РЮМК.430420.017ТУ; TypeComp: Вилка; NameComp: СНП377-20ВП21-2-01-3,5
pins: 1, 2, 3, 4, 5, 6, 7, 8, 9, 10, 11, 12, 13, 14, 15, 16, 17, 18, 19, 20
text: Кнт; Цепь

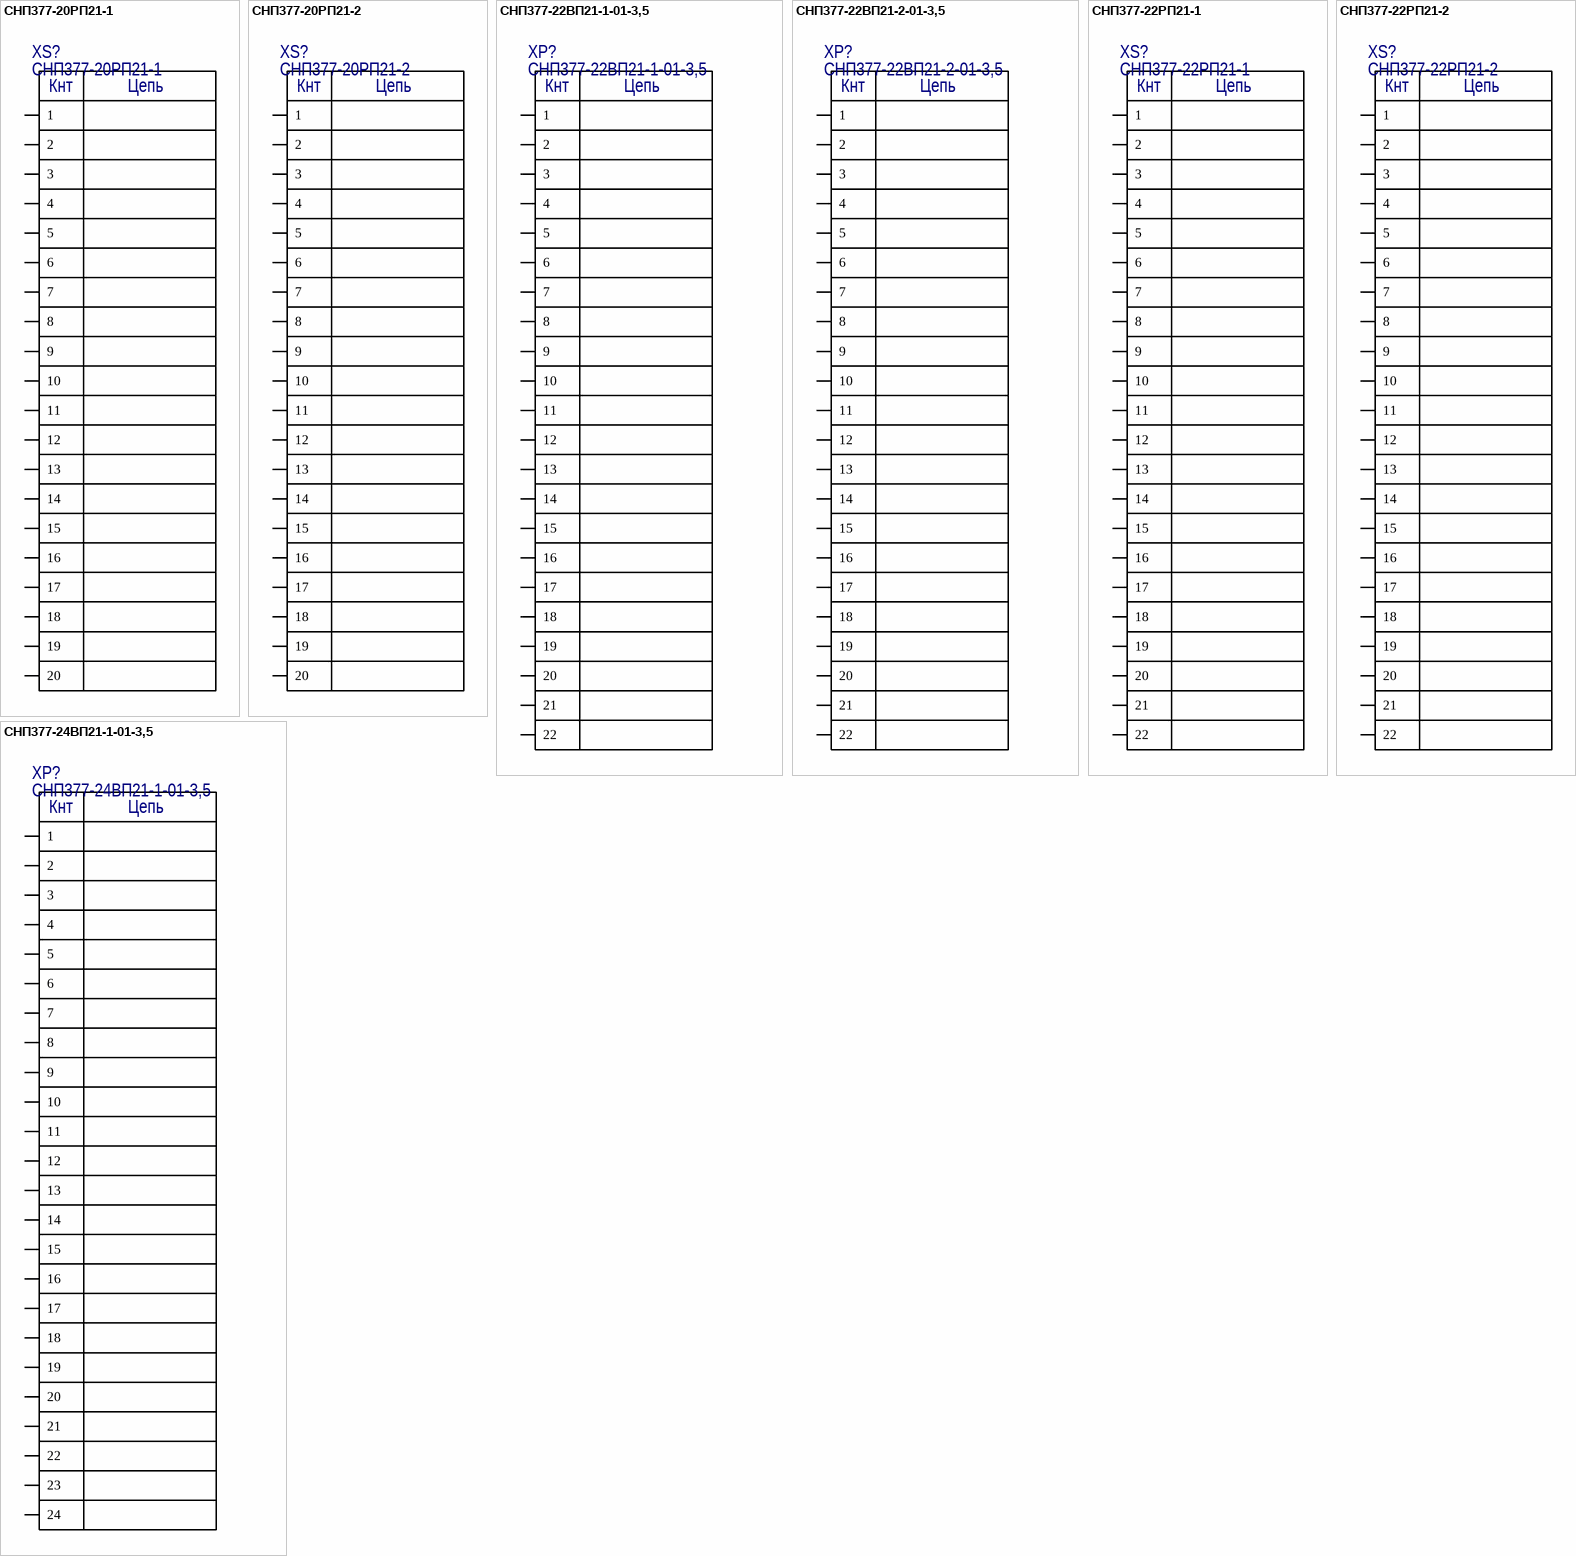
[diagram p7: symbols СНП377-20РП21-1 to СНП377-24ВП21-1-01-3,5]

## СНП377-20РП21-1
designator XS?
Part Number: СНП377-20РП21-1 РЮМК.430420.017ТУ; TypeComp: Розетка; NameComp: СНП377-20РП21-1
pins: 1, 2, 3, 4, 5, 6, 7, 8, 9, 10, 11, 12, 13, 14, 15, 16, 17, 18, 19, 20
text: Кнт; Цепь

## СНП377-20РП21-2
designator XS?
Part Number: СНП377-20РП21-2 РЮМК.430420.017ТУ; TypeComp: Розетка; NameComp: СНП377-20РП21-2
pins: 1, 2, 3, 4, 5, 6, 7, 8, 9, 10, 11, 12, 13, 14, 15, 16, 17, 18, 19, 20
text: Кнт; Цепь

## СНП377-22ВП21-1-01-3,5
designator XP?
Part Number: СНП377-22ВП21-1-01-3,5 РЮМК.430420.017ТУ; TypeComp: Вилка; NameComp: СНП377-22ВП21-1-01-3,5
pins: 1, 2, 3, 4, 5, 6, 7, 8, 9, 10, 11, 12, 13, 14, 15, 16, 17, 18, 19, 20, 21, 22
text: Кнт; Цепь

## СНП377-22ВП21-2-01-3,5
designator XP?
Part Number: СНП377-22ВП21-2-01-3,5 РЮМК.430420.017ТУ; TypeComp: Вилка; NameComp: СНП377-22ВП21-2-01-3,5
pins: 1, 2, 3, 4, 5, 6, 7, 8, 9, 10, 11, 12, 13, 14, 15, 16, 17, 18, 19, 20, 21, 22
text: Кнт; Цепь

## СНП377-22РП21-1
designator XS?
Part Number: СНП377-22РП21-1 РЮМК.430420.017ТУ; TypeComp: Розетка; NameComp: СНП377-22РП21-1
pins: 1, 2, 3, 4, 5, 6, 7, 8, 9, 10, 11, 12, 13, 14, 15, 16, 17, 18, 19, 20, 21, 22
text: Кнт; Цепь

## СНП377-22РП21-2
designator XS?
Part Number: СНП377-22РП21-2 РЮМК.430420.017ТУ; TypeComp: Розетка; NameComp: СНП377-22РП21-2
pins: 1, 2, 3, 4, 5, 6, 7, 8, 9, 10, 11, 12, 13, 14, 15, 16, 17, 18, 19, 20, 21, 22
text: Кнт; Цепь

## СНП377-24ВП21-1-01-3,5
designator XP?
Part Number: СНП377-24ВП21-1-01-3,5 РЮМК.430420.017ТУ; TypeComp: Вилка; NameComp: СНП377-24ВП21-1-01-3,5
pins: 1, 2, 3, 4, 5, 6, 7, 8, 9, 10, 11, 12, 13, 14, 15, 16, 17, 18, 19, 20, 21, 22, 23, 24
text: Кнт; Цепь

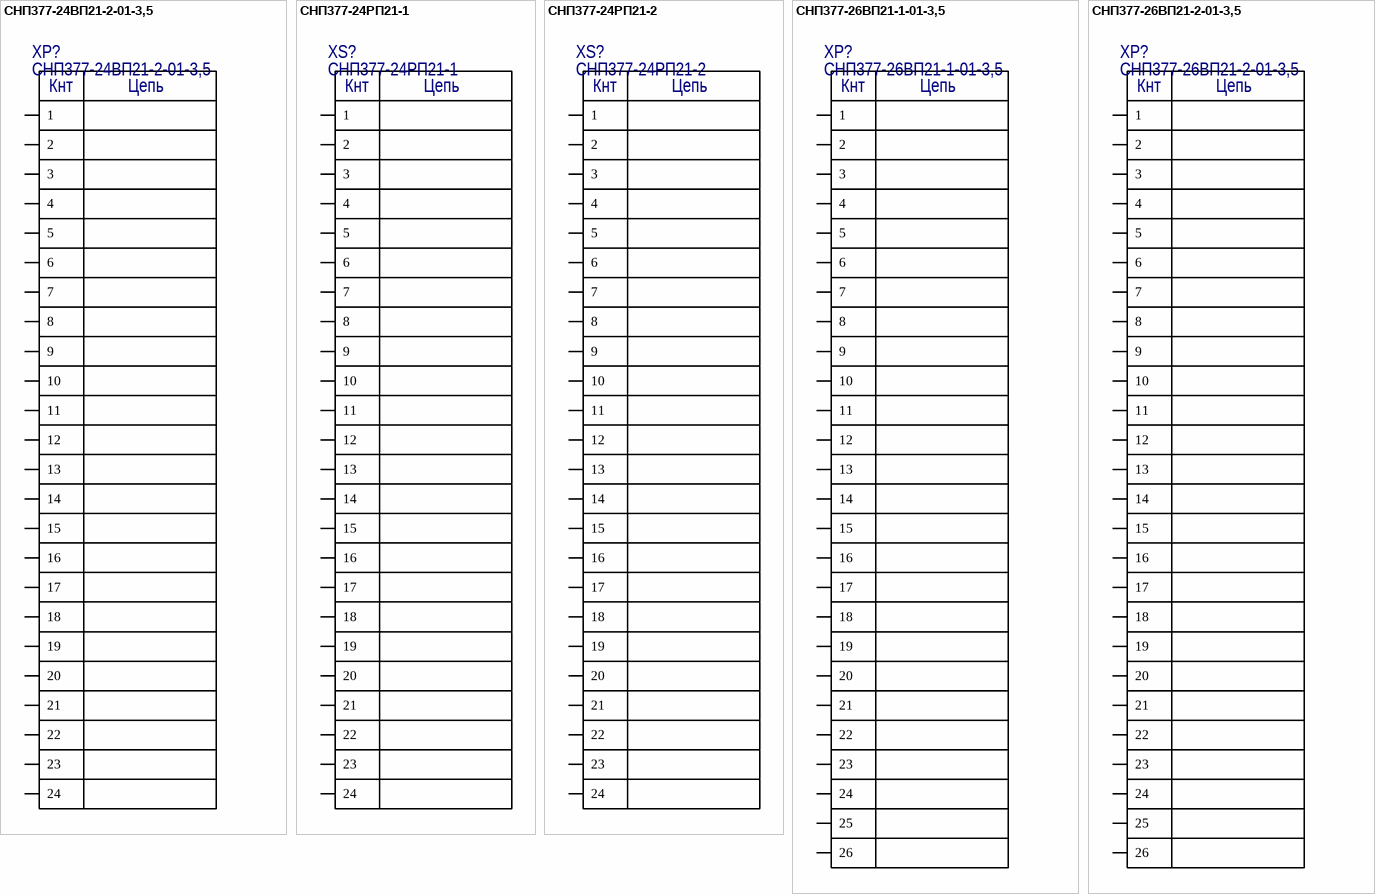
[diagram p8: symbols СНП377-24ВП21-2-01-3,5 to СНП377-26ВП21-2-01-3,5]

## СНП377-24ВП21-2-01-3,5
designator XP?
Part Number: СНП377-24ВП21-2-01-3,5 РЮМК.430420.017ТУ; TypeComp: Вилка; NameComp: СНП377-24ВП21-2-01-3,5
pins: 1, 2, 3, 4, 5, 6, 7, 8, 9, 10, 11, 12, 13, 14, 15, 16, 17, 18, 19, 20, 21, 22, 23, 24
text: Кнт; Цепь

## СНП377-24РП21-1
designator XS?
Part Number: СНП377-24РП21-1 РЮМК.430420.017ТУ; TypeComp: Розетка; NameComp: СНП377-24РП21-1
pins: 1, 2, 3, 4, 5, 6, 7, 8, 9, 10, 11, 12, 13, 14, 15, 16, 17, 18, 19, 20, 21, 22, 23, 24
text: Кнт; Цепь

## СНП377-24РП21-2
designator XS?
Part Number: СНП377-24РП21-2 РЮМК.430420.017ТУ; TypeComp: Розетка; NameComp: СНП377-24РП21-2
pins: 1, 2, 3, 4, 5, 6, 7, 8, 9, 10, 11, 12, 13, 14, 15, 16, 17, 18, 19, 20, 21, 22, 23, 24
text: Кнт; Цепь

## СНП377-26ВП21-1-01-3,5
designator XP?
Part Number: СНП377-26ВП21-1-01-3,5 РЮМК.430420.017ТУ; TypeComp: Вилка; NameComp: СНП377-26ВП21-1-01-3,5
pins: 1, 2, 3, 4, 5, 6, 7, 8, 9, 10, 11, 12, 13, 14, 15, 16, 17, 18, 19, 20, 21, 22, 23, 24, 25, 26
text: Кнт; Цепь

## СНП377-26ВП21-2-01-3,5
designator XP?
Part Number: СНП377-26ВП21-2-01-3,5 РЮМК.430420.017ТУ; TypeComp: Вилка; NameComp: СНП377-26ВП21-2-01-3,5
pins: 1, 2, 3, 4, 5, 6, 7, 8, 9, 10, 11, 12, 13, 14, 15, 16, 17, 18, 19, 20, 21, 22, 23, 24, 25, 26
text: Кнт; Цепь

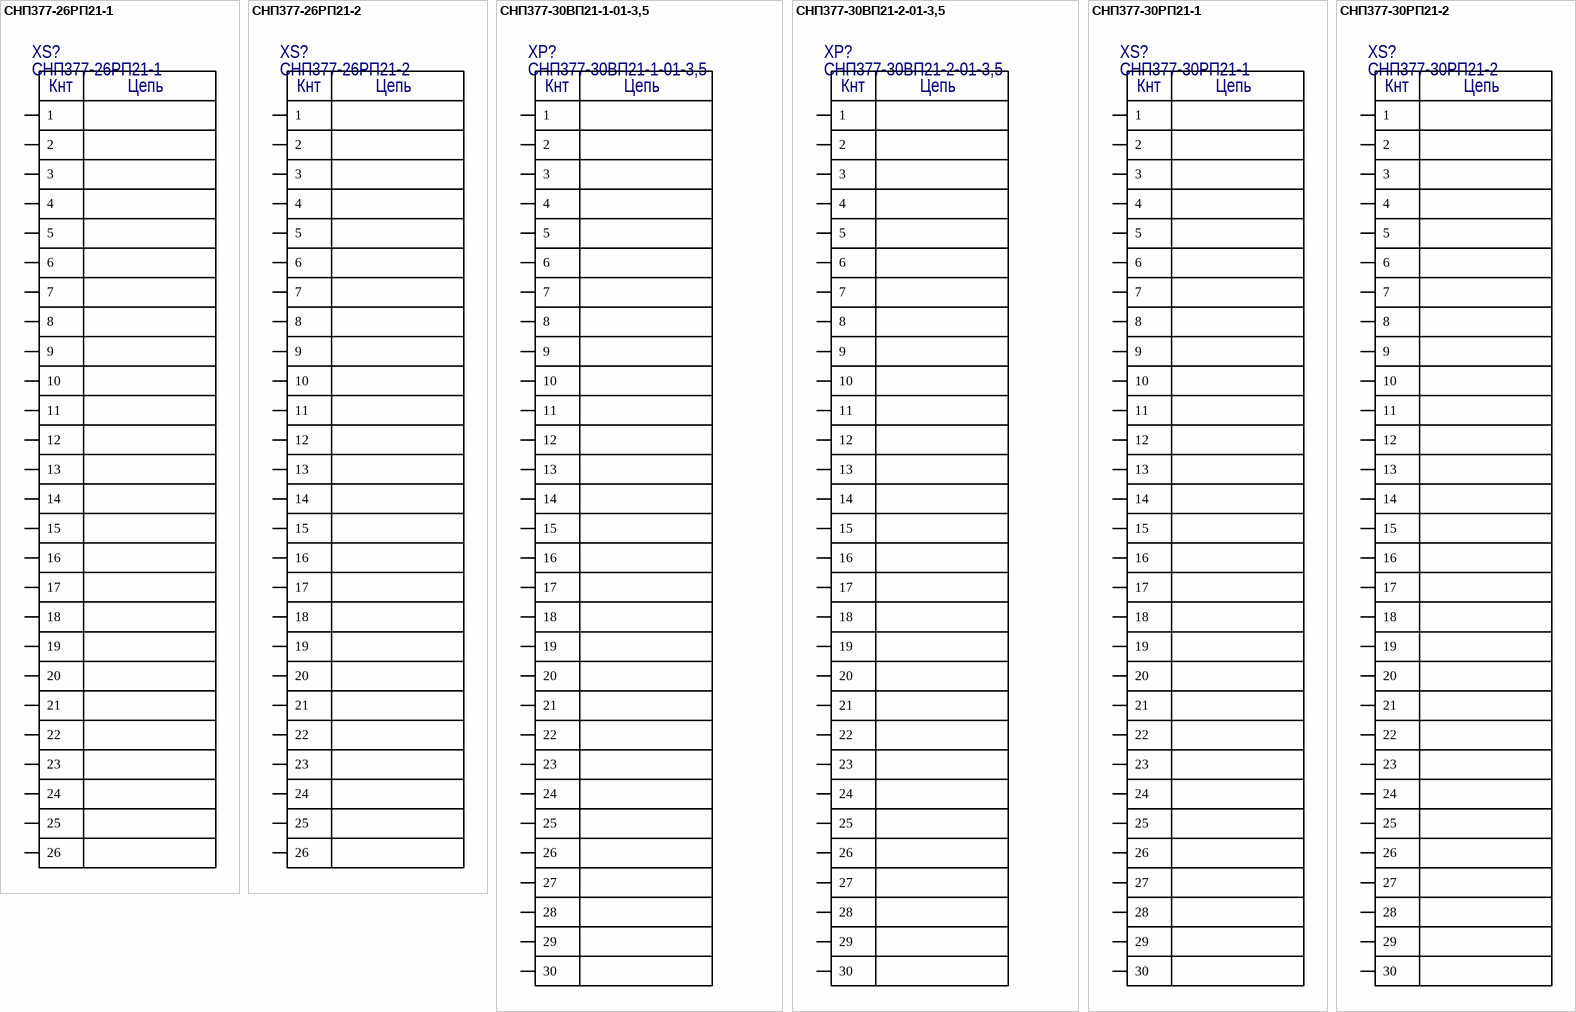
[diagram p9: symbols СНП377-26РП21-1 to СНП377-30РП21-2]

## СНП377-26РП21-1
designator XS?
Part Number: СНП377-26РП21-1 РЮМК.430420.017ТУ; TypeComp: Розетка; NameComp: СНП377-26РП21-1
pins: 1, 2, 3, 4, 5, 6, 7, 8, 9, 10, 11, 12, 13, 14, 15, 16, 17, 18, 19, 20, 21, 22, 23, 24, 25, 26
text: Кнт; Цепь

## СНП377-26РП21-2
designator XS?
Part Number: СНП377-26РП21-2 РЮМК.430420.017ТУ; TypeComp: Розетка; NameComp: СНП377-26РП21-2
pins: 1, 2, 3, 4, 5, 6, 7, 8, 9, 10, 11, 12, 13, 14, 15, 16, 17, 18, 19, 20, 21, 22, 23, 24, 25, 26
text: Кнт; Цепь

## СНП377-30ВП21-1-01-3,5
designator XP?
Part Number: СНП377-30ВП21-1-01-3,5 РЮМК.430420.017ТУ; TypeComp: Вилка; NameComp: СНП377-30ВП21-1-01-3,5
pins: 1, 2, 3, 4, 5, 6, 7, 8, 9, 10, 11, 12, 13, 14, 15, 16, 17, 18, 19, 20, 21, 22, 23, 24, 25, 26, 27, 28, 29, 30
text: Кнт; Цепь

## СНП377-30ВП21-2-01-3,5
designator XP?
Part Number: СНП377-30ВП21-2-01-3,5 РЮМК.430420.017ТУ; TypeComp: Вилка; NameComp: СНП377-30ВП21-2-01-3,5
pins: 1, 2, 3, 4, 5, 6, 7, 8, 9, 10, 11, 12, 13, 14, 15, 16, 17, 18, 19, 20, 21, 22, 23, 24, 25, 26, 27, 28, 29, 30
text: Кнт; Цепь

## СНП377-30РП21-1
designator XS?
Part Number: СНП377-30РП21-1 РЮМК.430420.017ТУ; TypeComp: Розетка; NameComp: СНП377-30РП21-1
pins: 1, 2, 3, 4, 5, 6, 7, 8, 9, 10, 11, 12, 13, 14, 15, 16, 17, 18, 19, 20, 21, 22, 23, 24, 25, 26, 27, 28, 29, 30
text: Кнт; Цепь

## СНП377-30РП21-2
designator XS?
Part Number: СНП377-30РП21-2 РЮМК.430420.017ТУ; TypeComp: Розетка; NameComp: СНП377-30РП21-2
pins: 1, 2, 3, 4, 5, 6, 7, 8, 9, 10, 11, 12, 13, 14, 15, 16, 17, 18, 19, 20, 21, 22, 23, 24, 25, 26, 27, 28, 29, 30
text: Кнт; Цепь

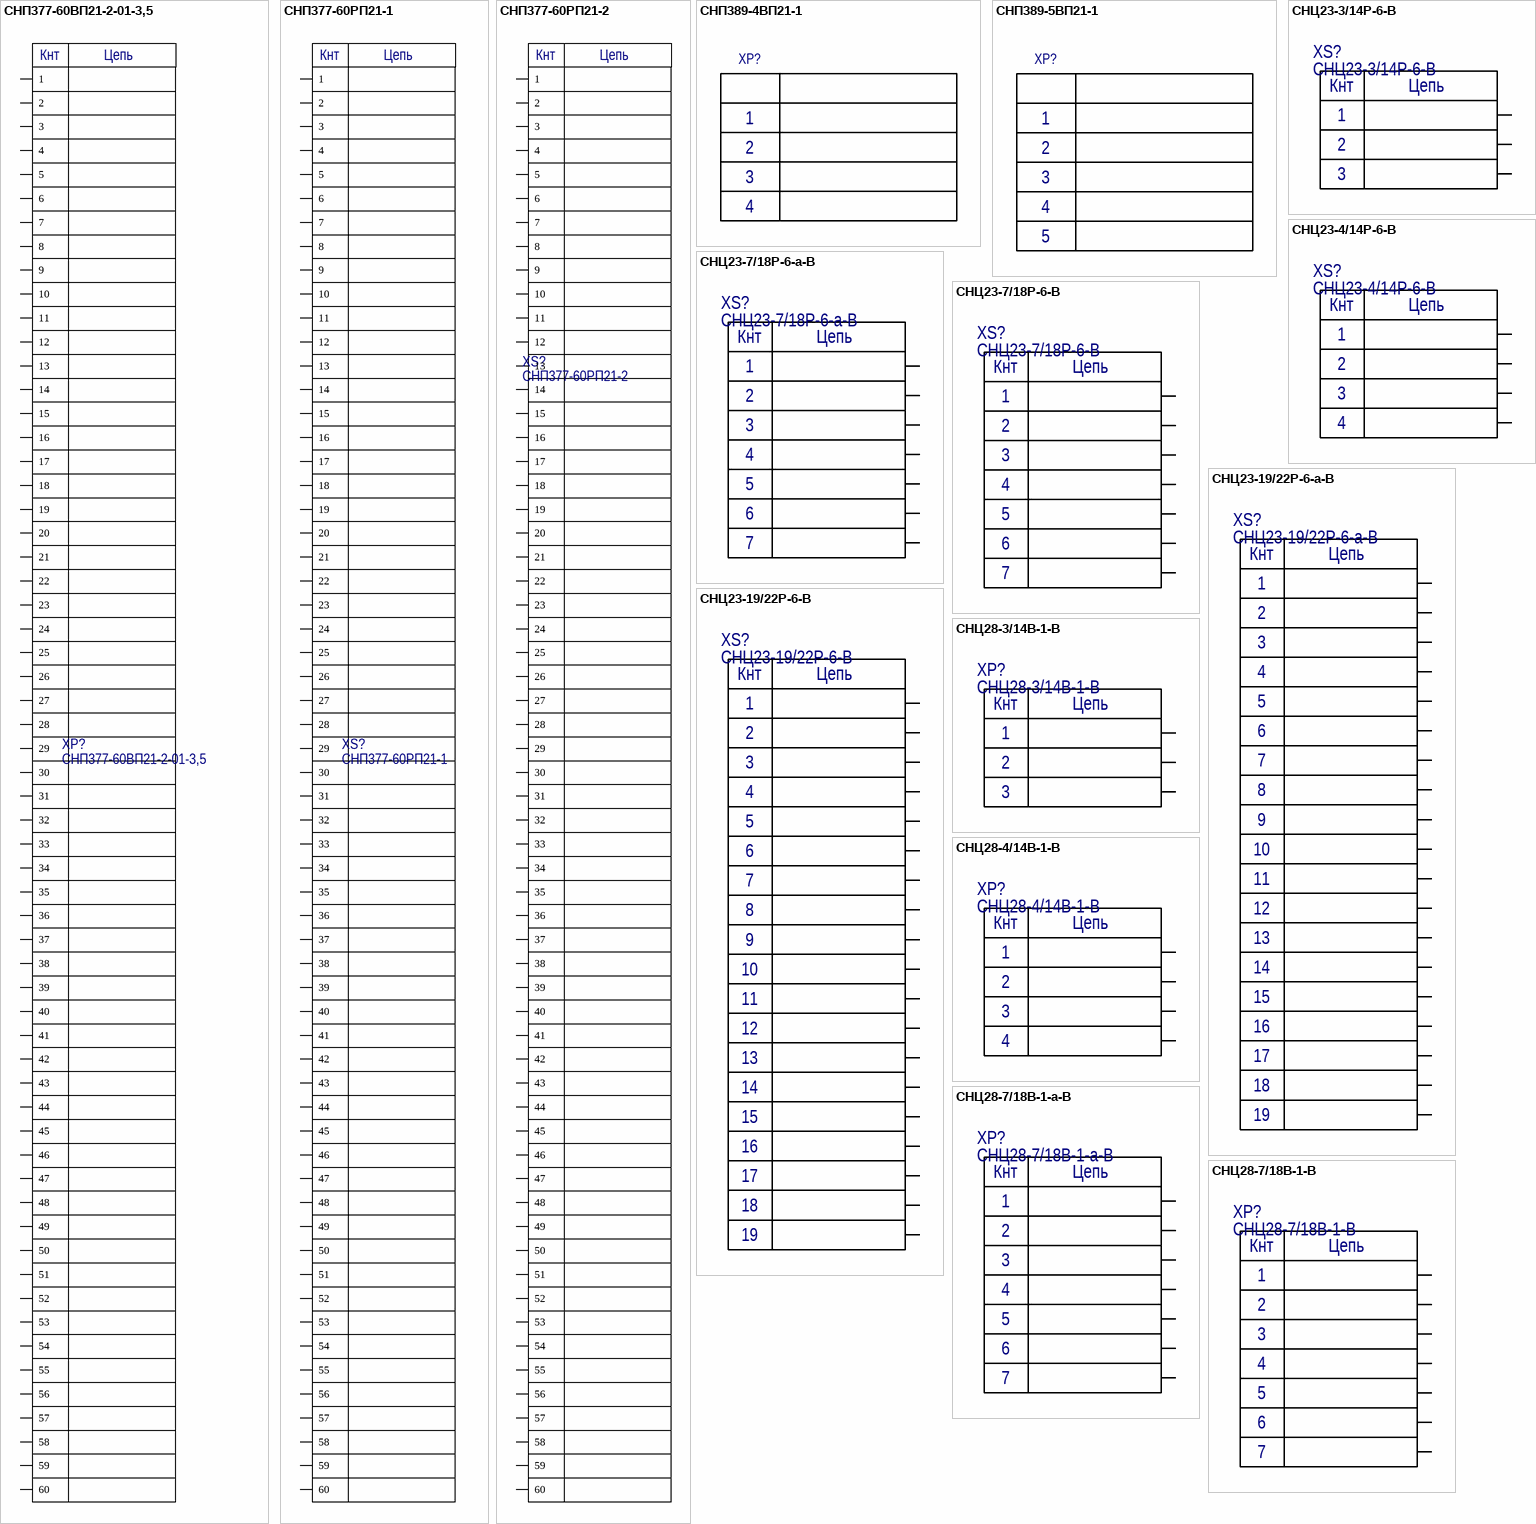
[diagram p10: symbols СНП377-60ВП21-2-01-3,5 to СНЦ28-7/18В-1-В]

## СНП377-60ВП21-2-01-3,5
designator XP?
Part Number: СНП377-60ВП21-2-01-3,5 РЮМК.430420.017ТУ; TypeComp: Вилка; NameComp: СНП377-60ВП21-2-01-3,5
pins: 1, 2, 3, 4, 5, 6, 7, 8, 9, 10, 11, 12, 13, 14, 15, 16, 17, 18, 19, 20, 21, 22, 23, 24, 25, 26, 27, 28, 29, 30, 31, 32, 33, 34, 35, 36, 37, 38, 39, 40, 41, 42, 43, 44, 45, 46, 47, 48, 49, 50, 51, 52, 53, 54, 55, 56, 57, 58, 59, 60
text: Кнт; Цепь

## СНП377-60РП21-1
designator XS?
Part Number: СНП377-60РП21-1 РЮМК.430420.017ТУ; TypeComp: Розетка; NameComp: СНП377-60РП21-1
pins: 1, 2, 3, 4, 5, 6, 7, 8, 9, 10, 11, 12, 13, 14, 15, 16, 17, 18, 19, 20, 21, 22, 23, 24, 25, 26, 27, 28, 29, 30, 31, 32, 33, 34, 35, 36, 37, 38, 39, 40, 41, 42, 43, 44, 45, 46, 47, 48, 49, 50, 51, 52, 53, 54, 55, 56, 57, 58, 59, 60
text: Кнт; Цепь

## СНП377-60РП21-2
designator XS?
Part Number: СНП377-60РП21-2 РЮМК.430420.017ТУ; TypeComp: Розетка; NameComp: СНП377-60РП21-2
pins: 1, 2, 3, 4, 5, 6, 7, 8, 9, 10, 11, 12, 13, 14, 15, 16, 17, 18, 19, 20, 21, 22, 23, 24, 25, 26, 27, 28, 29, 30, 31, 32, 33, 34, 35, 36, 37, 38, 39, 40, 41, 42, 43, 44, 45, 46, 47, 48, 49, 50, 51, 52, 53, 54, 55, 56, 57, 58, 59, 60
text: Кнт; Цепь

## СНП389-4ВП21-1
designator XP?  (value not drawn)
Group: Соединители; Manufacture: Manufacture; Type: Type
pins: 1, 2, 3, 4

## СНП389-5ВП21-1
designator XP?  (value not drawn)
Group: Соединители; Manufacture: Manufacture; Type: Type
pins: 1, 2, 3, 4, 5

## СНЦ23-3/14Р-6-В
designator XS?
Part Number: Розетка СНЦ23-3/14Р-6-В ГЕО.364.241ТУ; TypeComp: Вилка; NameComp: СНЦ23-3/14Р-6-В
pins: 1, 2, 3
text: Кнт; Цепь

## СНЦ23-4/14Р-6-В
designator XS?
Part Number: Розетка СНЦ23-4/14Р-6-В ГЕО.364.241ТУ; TypeComp: Вилка; NameComp: СНЦ23-4/14Р-6-В
pins: 1, 2, 3, 4
text: Кнт; Цепь

## СНЦ23-7/18Р-6-а-В
designator XS?
Part Number: Розетка СНЦ23-7/18Р-6-а-В ГЕО.364.241ТУ; TypeComp: Вилка; NameComp: СНЦ23-7/18Р-6-а-В
pins: 1, 2, 3, 4, 5, 6, 7
text: Кнт; Цепь

## СНЦ23-7/18Р-6-В
designator XS?
Part Number: Розетка СНЦ23-7/18Р-6-В ГЕО.364.241ТУ; TypeComp: Вилка; NameComp: СНЦ23-7/18Р-6-В
pins: 1, 2, 3, 4, 5, 6, 7
text: Кнт; Цепь

## СНЦ23-19/22Р-6-а-В
designator XS?
Part Number: Розетка СНЦ23-19/22Р-6-а-В ГЕО.364.241ТУ; TypeComp: Вилка; NameComp: СНЦ23-19/22Р-6-а-В
pins: 1, 2, 3, 4, 5, 6, 7, 8, 9, 10, 11, 12, 13, 14, 15, 16, 17, 18, 19
text: Кнт; Цепь

## СНЦ23-19/22Р-6-В
designator XS?
Part Number: Розетка СНЦ23-19/22Р-6-В ГЕО.364.241ТУ; TypeComp: Вилка; NameComp: СНЦ23-19/22Р-6-В
pins: 1, 2, 3, 4, 5, 6, 7, 8, 9, 10, 11, 12, 13, 14, 15, 16, 17, 18, 19
text: Кнт; Цепь

## СНЦ28-3/14В-1-В
designator XP?
Part Number: Вилка СНЦ28-3/14В-1-В бР0.364.038ТУ; TypeComp: Вилка; NameComp: СНЦ28-3/14В-1-В
pins: 1, 2, 3
text: Кнт; Цепь

## СНЦ28-4/14В-1-В
designator XP?
Part Number: Вилка СНЦ28-4/14В-1-В бР0.364.038ТУ; TypeComp: Вилка; NameComp: СНЦ28-4/14В-1-В
pins: 1, 2, 3, 4
text: Кнт; Цепь

## СНЦ28-7/18В-1-а-В
designator XP?
Part Number: Вилка СНЦ28-7/18В-1-а-В бР0.364.038ТУ; TypeComp: Вилка; NameComp: СНЦ28-7/18В-1-а-В
pins: 1, 2, 3, 4, 5, 6, 7
text: Кнт; Цепь

## СНЦ28-7/18В-1-В
designator XP?
Part Number: Вилка СНЦ28-7/18В-1-В бР0.364.038ТУ; TypeComp: Вилка; NameComp: СНЦ28-7/18В-1-В
pins: 1, 2, 3, 4, 5, 6, 7
text: Кнт; Цепь

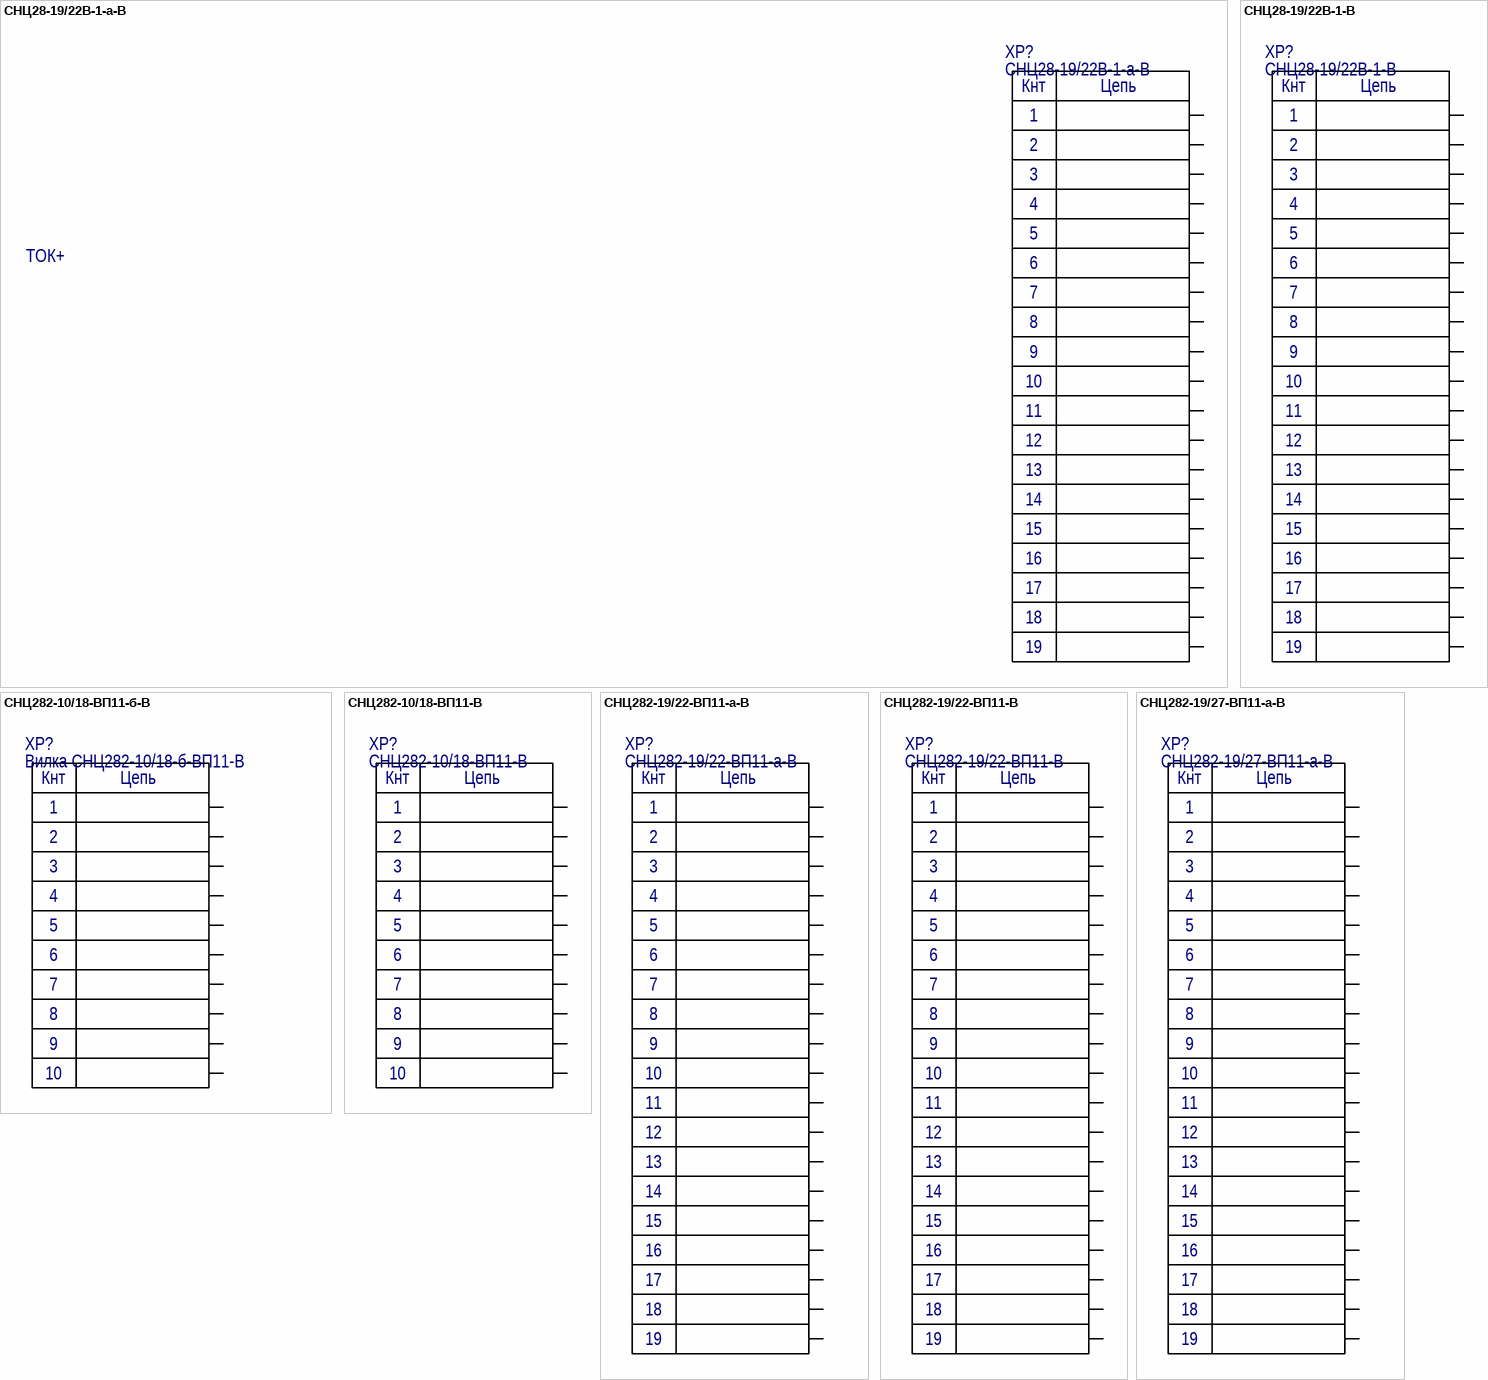
[diagram p11: symbols СНЦ28-19/22В-1-а-В to СНЦ282-19/27-ВП11-а-В]

## СНЦ28-19/22В-1-а-В
designator XP?
Part Number: Вилка СНЦ28-19/22В-1-а-В бР0.364.038ТУ; TypeComp: Вилка; NameComp: СНЦ28-19/22В-1-а-В
pins: 1, 2, 3, 4, 5, 6, 7, 8, 9, 10, 11, 12, 13, 14, 15, 16, 17, 18, 19
text: Кнт; Цепь; ТОК+

## СНЦ28-19/22В-1-В
designator XP?
Part Number: Вилка СНЦ28-19/22В-1-В бР0.364.038ТУ; TypeComp: Вилка; NameComp: СНЦ28-19/22В-1-В
pins: 1, 2, 3, 4, 5, 6, 7, 8, 9, 10, 11, 12, 13, 14, 15, 16, 17, 18, 19
text: Кнт; Цепь

## СНЦ282-10/18-ВП11-б-В
designator XP?, comment Вилка СНЦ282-10/18-б-ВП11-В
Part Number: Вилка СНЦ282-10/18-ВП11-б-В НКЦС.434410.507ТУ; TypeComp: Вилка; NameComp: Вилка СНЦ282-10/18-б-ВП11-В
pins: 1, 2, 3, 4, 5, 6, 7, 8, 9, 10
text: Кнт; Цепь

## СНЦ282-10/18-ВП11-В
designator XP?
Part Number: Вилка СНЦ282-10/18-ВП11-В НКЦС.434410.507ТУ; TypeComp: Вилка; NameComp: СНЦ282-10/18-ВП11-В
pins: 1, 2, 3, 4, 5, 6, 7, 8, 9, 10
text: Кнт; Цепь

## СНЦ282-19/22-ВП11-а-В
designator XP?
Part Number: Вилка СНЦ282-19/22-ВП11-а-В НКЦС.434410.507ТУ; TypeComp: Вилка; NameComp: СНЦ282-19/22-ВП11-а-В
pins: 1, 2, 3, 4, 5, 6, 7, 8, 9, 10, 11, 12, 13, 14, 15, 16, 17, 18, 19
text: Кнт; Цепь

## СНЦ282-19/22-ВП11-В
designator XP?
Part Number: Вилка СНЦ282-19/22-ВП11-В НКЦС.434410.507ТУ; TypeComp: Вилка; NameComp: СНЦ282-19/22-ВП11-В
pins: 1, 2, 3, 4, 5, 6, 7, 8, 9, 10, 11, 12, 13, 14, 15, 16, 17, 18, 19
text: Кнт; Цепь

## СНЦ282-19/27-ВП11-а-В
designator XP?
Part Number: Вилка СНЦ282-19/27-ВП11-а-В НКЦС.434410.507ТУ; TypeComp: Вилка; NameComp: СНЦ282-19/27-ВП11-а-В
pins: 1, 2, 3, 4, 5, 6, 7, 8, 9, 10, 11, 12, 13, 14, 15, 16, 17, 18, 19
text: Кнт; Цепь

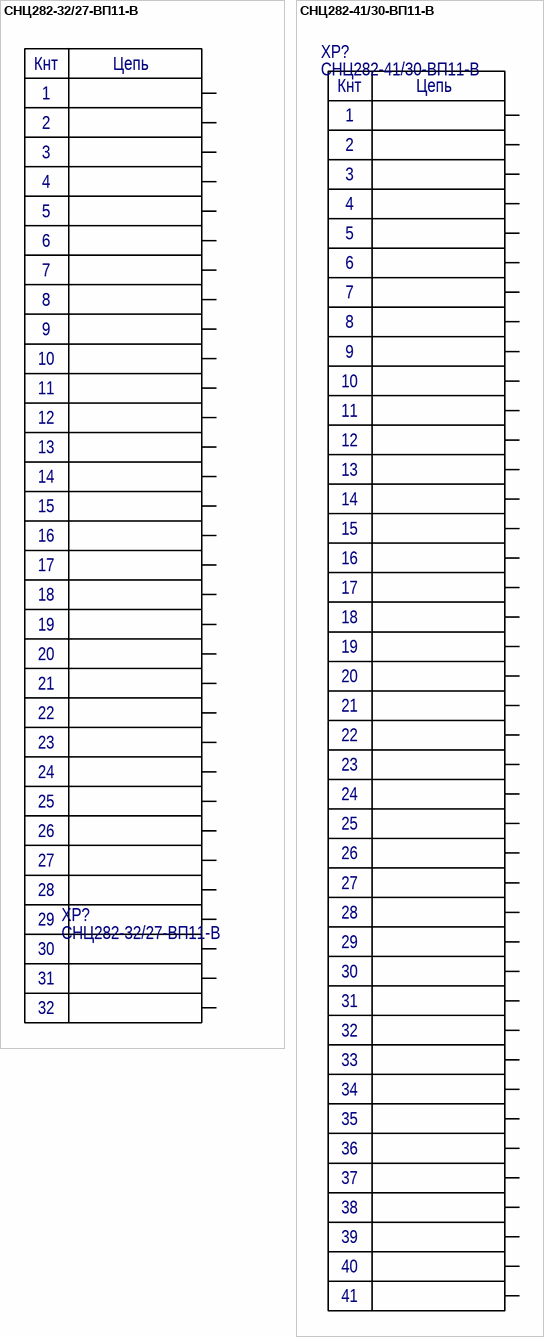
[diagram p12: symbols СНЦ282-32/27-ВП11-В to СНЦ282-41/30-ВП11-В]

## СНЦ282-32/27-ВП11-В
designator XP?
Part Number: Вилка СНЦ282-32/27-ВП11-В НКЦС.434410.507; TypeComp: Вилка; NameComp: СНЦ282-32/27-ВП11-В
pins: 1, 2, 3, 4, 5, 6, 7, 8, 9, 10, 11, 12, 13, 14, 15, 16, 17, 18, 19, 20, 21, 22, 23, 24, 25, 26, 27, 28, 29, 30, 31, 32
text: Кнт; Цепь

## СНЦ282-41/30-ВП11-В
designator XP?
Part Number: Вилка СНЦ282-41/30-ВП11-В НКЦС.434410.507; TypeComp: Вилка; NameComp: СНЦ282-41/30-ВП11-В
pins: 1, 2, 3, 4, 5, 6, 7, 8, 9, 10, 11, 12, 13, 14, 15, 16, 17, 18, 19, 20, 21, 22, 23, 24, 25, 26, 27, 28, 29, 30, 31, 32, 32, 32, 32, 32, 32, 32, 32, 32, 32
text: Кнт; Цепь; 33; 34; 35; 36; 37; 38; 39; 40; 41